# Altium schematic symbol library BundledUserSymbols.SchLib: 915 symbols (part 1 of 17)
Pins are listed as number, name and electrical type; pins without a type are passive.

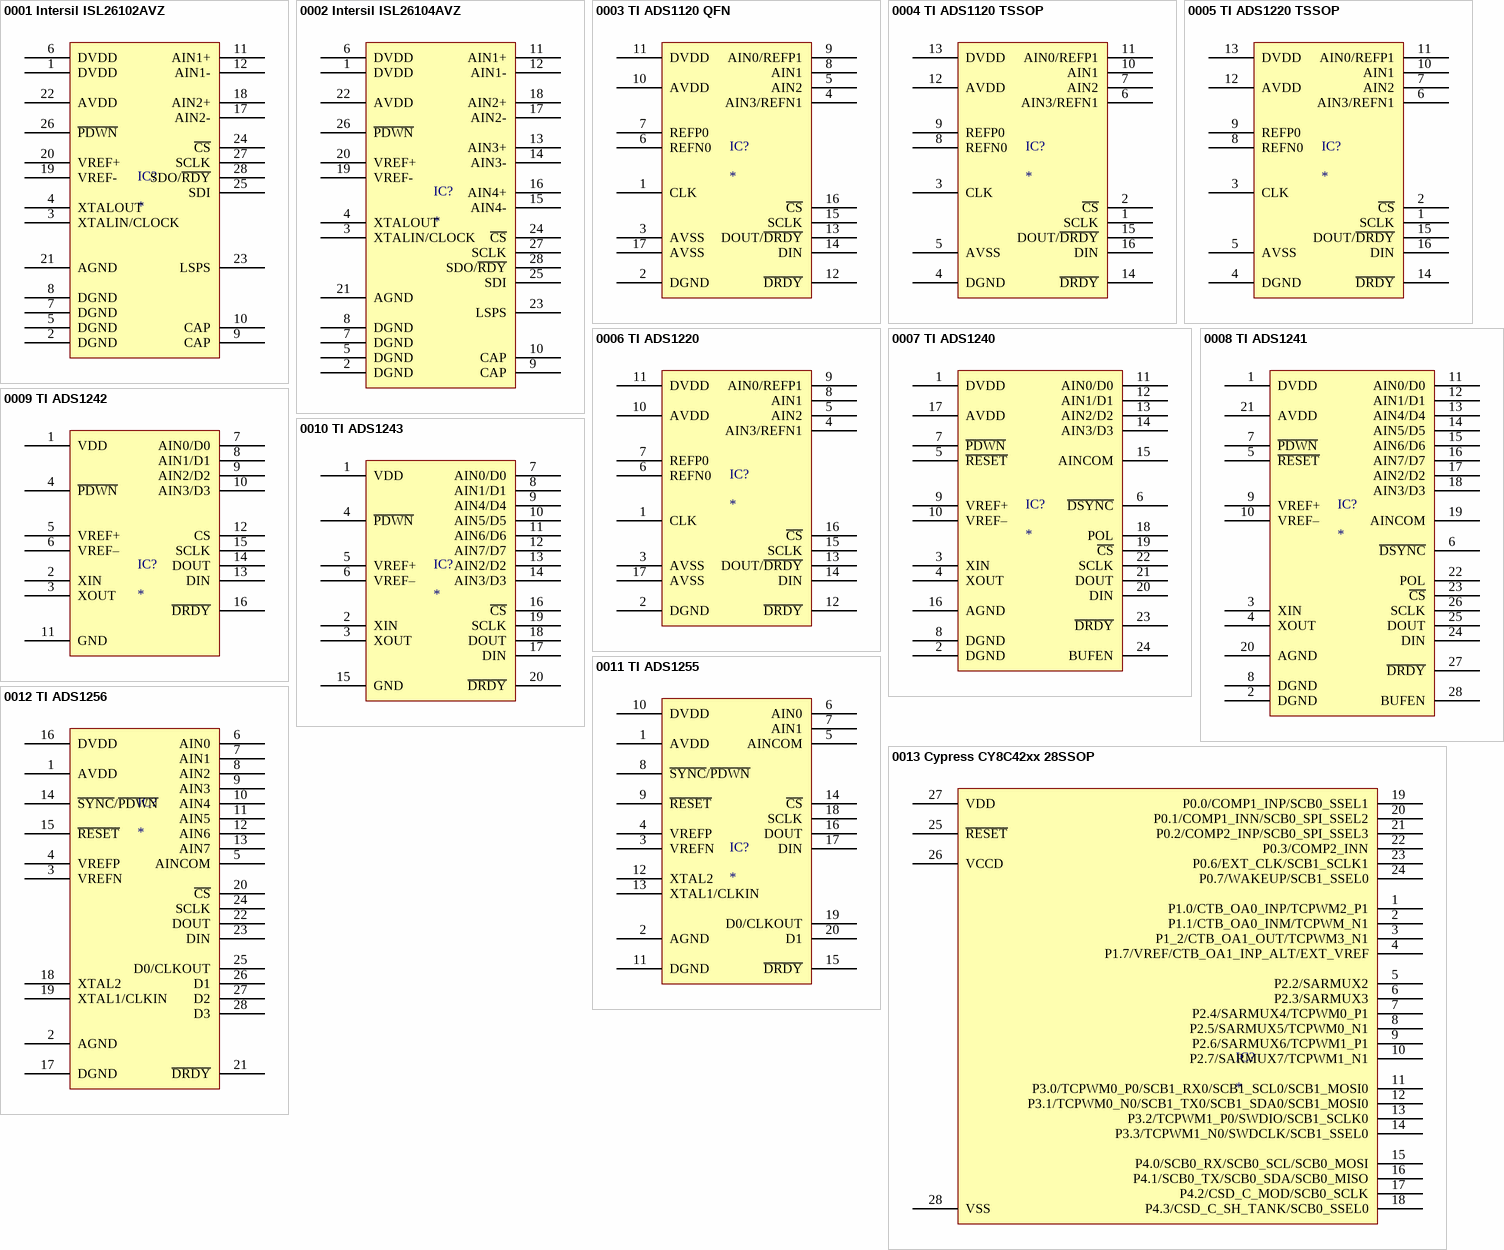
[diagram p0: symbols 0001 Intersil ISL26102AVZ to 0013 Cypress CY8C42xx 28SSOP]

## 0001 Intersil ISL26102AVZ
designator IC?
pins: 1 DVDD, 2 DGND, 3 XTALIN/CLOCK, 4 XTALOUT, 5 DGND, 6 DVDD, 7 DGND, 8 DGND, 9 CAP, 10 CAP, 11 AIN1+, 12 AIN1-, 17 AIN2-, 18 AIN2+, 19 VREF-, 20 VREF+, 21 AGND, 22 AVDD, 23 LSPS, 24 ~{CS}, 25 SDI, 26 ~{PDWN}, 27 SCLK, 28 SDO/~{RDY}

## 0002 Intersil ISL26104AVZ
designator IC?
pins: 1 DVDD, 2 DGND, 3 XTALIN/CLOCK, 4 XTALOUT, 5 DGND, 6 DVDD, 7 DGND, 8 DGND, 9 CAP, 10 CAP, 11 AIN1+, 12 AIN1-, 13 AIN3+, 14 AIN3-, 15 AIN4-, 16 AIN4+, 17 AIN2-, 18 AIN2+, 19 VREF-, 20 VREF+, 21 AGND, 22 AVDD, 23 LSPS, 24 ~{CS}, 25 SDI, 26 ~{PDWN}, 27 SCLK, 28 SDO/~{RDY}

## 0003 TI ADS1120 QFN
designator IC?
pins: 1 CLK, 2 DGND, 3 AVSS, 4 AIN3/REFN1, 5 AIN2, 6 REFN0, 7 REFP0, 8 AIN1, 9 AIN0/REFP1, 10 AVDD, 11 DVDD, 12 ~{DRDY}, 13 DOUT/~{DRDY}, 14 DIN, 15 SCLK, 16 ~{CS}, 17 AVSS

## 0004 TI ADS1120 TSSOP
designator IC?
pins: 1 SCLK, 2 ~{CS}, 3 CLK, 4 DGND, 5 AVSS, 6 AIN3/REFN1, 7 AIN2, 8 REFN0, 9 REFP0, 10 AIN1, 11 AIN0/REFP1, 12 AVDD, 13 DVDD, 14 ~{DRDY}, 15 DOUT/~{DRDY}, 16 DIN

## 0005 TI ADS1220 TSSOP
designator IC?
pins: 1 SCLK, 2 ~{CS}, 3 CLK, 4 DGND, 5 AVSS, 6 AIN3/REFN1, 7 AIN2, 8 REFN0, 9 REFP0, 10 AIN1, 11 AIN0/REFP1, 12 AVDD, 13 DVDD, 14 ~{DRDY}, 15 DOUT/~{DRDY}, 16 DIN

## 0006 TI ADS1220
designator IC?
pins: 1 CLK, 2 DGND, 3 AVSS, 4 AIN3/REFN1, 5 AIN2, 6 REFN0, 7 REFP0, 8 AIN1, 9 AIN0/REFP1, 10 AVDD, 11 DVDD, 12 ~{DRDY}, 13 DOUT/~{DRDY}, 14 DIN, 15 SCLK, 16 ~{CS}, 17 AVSS

## 0007 TI ADS1240
designator IC?
pins: 1 DVDD, 2 DGND, 3 XIN, 4 XOUT, 5 ~{RESET}, 6 ~{DSYNC}, 7 ~{PDWN}, 8 DGND, 9 VREF+, 10 VREF–, 11 AIN0/D0, 12 AIN1/D1, 13 AIN2/D2, 14 AIN3/D3, 15 AINCOM, 16 AGND, 17 AVDD, 18 POL, 19 ~{CS}, 20 DIN, 21 DOUT, 22 SCLK, 23 ~{DRDY}, 24 BUFEN

## 0008 TI ADS1241
designator IC?
pins: 1 DVDD, 2 DGND, 3 XIN, 4 XOUT, 5 ~{RESET}, 6 ~{DSYNC}, 7 ~{PDWN}, 8 DGND, 9 VREF+, 10 VREF–, 11 AIN0/D0, 12 AIN1/D1, 13 AIN4/D4, 14 AIN5/D5, 15 AIN6/D6, 16 AIN7/D7, 17 AIN2/D2, 18 AIN3/D3, 19 AINCOM, 20 AGND, 21 AVDD, 22 POL, 23 ~{CS}, 24 DIN, 25 DOUT, 26 SCLK, 27 ~{DRDY}, 28 BUFEN

## 0009 TI ADS1242
designator IC?
pins: 1 VDD, 2 XIN, 3 XOUT, 4 ~{PDWN}, 5 VREF+, 6 VREF–, 7 AIN0/D0, 8 AIN1/D1, 9 AIN2/D2, 10 AIN3/D3, 11 GND, 12 CS, 13 DIN, 14 DOUT, 15 SCLK, 16 ~{DRDY}

## 0010 TI ADS1243
designator IC?
pins: 1 VDD, 2 XIN, 3 XOUT, 4 ~{PDWN}, 5 VREF+, 6 VREF–, 7 AIN0/D0, 8 AIN1/D1, 9 AIN4/D4, 10 AIN5/D5, 11 AIN6/D6, 12 AIN7/D7, 13 AIN2/D2, 14 AIN3/D3, 15 GND, 16 ~{CS}, 17 DIN, 18 DOUT, 19 SCLK, 20 ~{DRDY}

## 0011 TI ADS1255
designator IC?
pins: 1 AVDD, 2 AGND, 3 VREFN, 4 VREFP, 5 AINCOM, 6 AIN0, 7 AIN1, 8 ~{SYNC}/~{PDWN}, 9 ~{RESET}, 10 DVDD, 11 DGND, 12 XTAL2, 13 XTAL1/CLKIN, 14 ~{CS}, 15 ~{DRDY}, 16 DOUT, 17 DIN, 18 SCLK, 19 D0/CLKOUT, 20 D1

## 0012 TI ADS1256
designator IC?
pins: 1 AVDD, 2 AGND, 3 VREFN, 4 VREFP, 5 AINCOM, 6 AIN0, 7 AIN1, 8 AIN2, 9 AIN3, 10 AIN4, 11 AIN5, 12 AIN6, 13 AIN7, 14 ~{SYNC}/~{PDWN}, 15 ~{RESET}, 16 DVDD, 17 DGND, 18 XTAL2, 19 XTAL1/CLKIN, 20 ~{CS}, 21 ~{DRDY}, 22 DOUT, 23 DIN, 24 SCLK, 25 D0/CLKOUT, 26 D1, 27 D2, 28 D3

## 0013 Cypress CY8C42xx 28SSOP
designator IC?
pins: 1 P1.0/CTB_OA0_INP/TCPWM2_P1, 2 P1.1/CTB_OA0_INM/TCPWM_N1, 3 P1_2/CTB_OA1_OUT/TCPWM3_N1, 4 P1.7/VREF/CTB_OA1_INP_ALT/EXT_VREF, 5 P2.2/SARMUX2, 6 P2.3/SARMUX3, 7 P2.4/SARMUX4/TCPWM0_P1, 8 P2.5/SARMUX5/TCPWM0_N1, 9 P2.6/SARMUX6/TCPWM1_P1, 10 P2.7/SARMUX7/TCPWM1_N1, 11 P3.0/TCPWM0_P0/SCB1_RX0/SCB1_SCL0/SCB1_MOSI0, 12 P3.1/TCPWM0_N0/SCB1_TX0/SCB1_SDA0/SCB1_MOSI0, 13 P3.2/TCPWM1_P0/SWDIO/SCB1_SCLK0, 14 P3.3/TCPWM1_N0/SWDCLK/SCB1_SSEL0, 15 P4.0/SCB0_RX/SCB0_SCL/SCB0_MOSI, 16 P4.1/SCB0_TX/SCB0_SDA/SCB0_MISO, 17 P4.2/CSD_C_MOD/SCB0_SCLK, 18 P4.3/CSD_C_SH_TANK/SCB0_SSEL0, 19 P0.0/COMP1_INP/SCB0_SSEL1, 20 P0.1/COMP1_INN/SCB0_SPI_SSEL2, 21 P0.2/COMP2_INP/SCB0_SPI_SSEL3, 22 P0.3/COMP2_INN, 23 P0.6/EXT_CLK/SCB1_SCLK1, 24 P0.7/WAKEUP/SCB1_SSEL0, 25 ~{RESET}, 26 VCCD, 27 VDD, 28 VSS

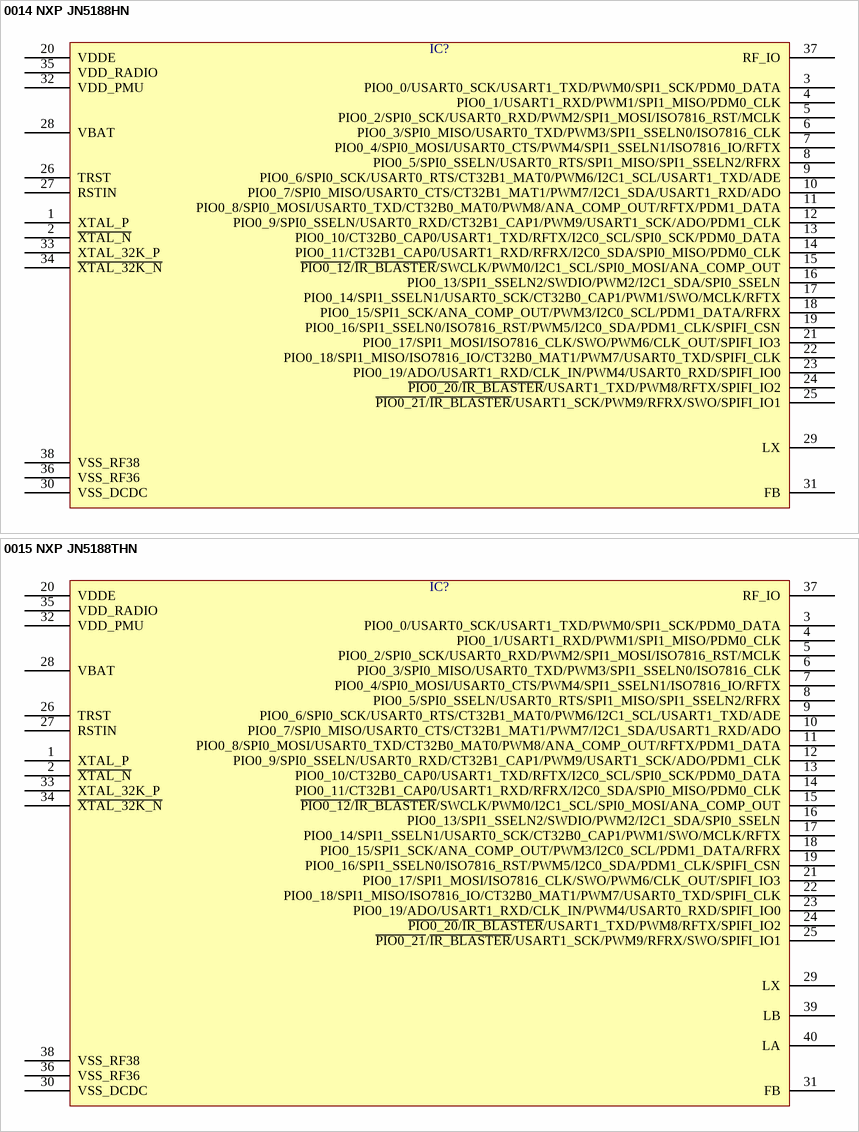
[diagram p1: symbols 0014 NXP JN5188HN to 0015 NXP JN5188THN]

## 0014 NXP JN5188HN
designator IC?  (value not drawn)
pins: 1 XTAL_P, 2 ~{XTAL_N}, 3 PIO0_0/USART0_SCK/USART1_TXD/PWM0/SPI1_SCK/PDM0_DATA, 4 PIO0_1/USART1_RXD/PWM1/SPI1_MISO/PDM0_CLK, 5 PIO0_2/SPI0_SCK/USART0_RXD/PWM2/SPI1_MOSI/ISO7816_RST/MCLK, 6 PIO0_3/SPI0_MISO/USART0_TXD/PWM3/SPI1_SSELN0/ISO7816_CLK, 7 PIO0_4/SPI0_MOSI/USART0_CTS/PWM4/SPI1_SSELN1/ISO7816_IO/RFTX, 8 PIO0_5/SPI0_SSELN/USART0_RTS/SPI1_MISO/SPI1_SSELN2/RFRX, 9 PIO0_6/SPI0_SCK/USART0_RTS/CT32B1_MAT0/PWM6/I2C1_SCL/USART1_TXD/ADE, 10 PIO0_7/SPI0_MISO/USART0_CTS/CT32B1_MAT1/PWM7/I2C1_SDA/USART1_RXD/ADO, 11 PIO0_8/SPI0_MOSI/USART0_TXD/CT32B0_MAT0/PWM8/ANA_COMP_OUT/RFTX/PDM1_DATA, 12 PIO0_9/SPI0_SSELN/USART0_RXD/CT32B1_CAP1/PWM9/USART1_SCK/ADO/PDM1_CLK, 13 PIO0_10/CT32B0_CAP0/USART1_TXD/RFTX/I2C0_SCL/SPI0_SCK/PDM0_DATA, 14 PIO0_11/CT32B1_CAP0/USART1_RXD/RFRX/I2C0_SDA/SPI0_MISO/PDM0_CLK, 15 ~{PIO0_12}/~{IR_BLASTER}/SWCLK/PWM0/I2C1_SCL/SPI0_MOSI/ANA_COMP_OUT, 16 PIO0_13/SPI1_SSELN2/SWDIO/PWM2/I2C1_SDA/SPI0_SSELN, 17 PIO0_14/SPI1_SSELN1/USART0_SCK/CT32B0_CAP1/PWM1/SWO/MCLK/RFTX, 18 PIO0_15/SPI1_SCK/ANA_COMP_OUT/PWM3/I2C0_SCL/PDM1_DATA/RFRX, 19 PIO0_16/SPI1_SSELN0/ISO7816_RST/PWM5/I2C0_SDA/PDM1_CLK/SPIFI_CSN, 20 VDDE, 21 PIO0_17/SPI1_MOSI/ISO7816_CLK/SWO/PWM6/CLK_OUT/SPIFI_IO3, 22 PIO0_18/SPI1_MISO/ISO7816_IO/CT32B0_MAT1/PWM7/USART0_TXD/SPIFI_CLK, 23 PIO0_19/ADO/USART1_RXD/CLK_IN/PWM4/USART0_RXD/SPIFI_IO0, 24 ~{PIO0_20}/~{IR_BLASTER}/USART1_TXD/PWM8/RFTX/SPIFI_IO2, 25 ~{PIO0_21}/~{IR_BLASTER}/USART1_SCK/PWM9/RFRX/SWO/SPIFI_IO1, 26 TRST, 27 RSTIN, 28 VBAT, 29 LX, 30 VSS_DCDC, 31 FB, 32 VDD_PMU, 33 XTAL_32K_P, 34 ~{XTAL_32K_N}, 35 VDD_RADIO, 36 VSS_RF36, 37 RF_IO, 38 VSS_RF38

## 0015 NXP JN5188THN
designator IC?  (value not drawn)
pins: 1 XTAL_P, 2 ~{XTAL_N}, 3 PIO0_0/USART0_SCK/USART1_TXD/PWM0/SPI1_SCK/PDM0_DATA, 4 PIO0_1/USART1_RXD/PWM1/SPI1_MISO/PDM0_CLK, 5 PIO0_2/SPI0_SCK/USART0_RXD/PWM2/SPI1_MOSI/ISO7816_RST/MCLK, 6 PIO0_3/SPI0_MISO/USART0_TXD/PWM3/SPI1_SSELN0/ISO7816_CLK, 7 PIO0_4/SPI0_MOSI/USART0_CTS/PWM4/SPI1_SSELN1/ISO7816_IO/RFTX, 8 PIO0_5/SPI0_SSELN/USART0_RTS/SPI1_MISO/SPI1_SSELN2/RFRX, 9 PIO0_6/SPI0_SCK/USART0_RTS/CT32B1_MAT0/PWM6/I2C1_SCL/USART1_TXD/ADE, 10 PIO0_7/SPI0_MISO/USART0_CTS/CT32B1_MAT1/PWM7/I2C1_SDA/USART1_RXD/ADO, 11 PIO0_8/SPI0_MOSI/USART0_TXD/CT32B0_MAT0/PWM8/ANA_COMP_OUT/RFTX/PDM1_DATA, 12 PIO0_9/SPI0_SSELN/USART0_RXD/CT32B1_CAP1/PWM9/USART1_SCK/ADO/PDM1_CLK, 13 PIO0_10/CT32B0_CAP0/USART1_TXD/RFTX/I2C0_SCL/SPI0_SCK/PDM0_DATA, 14 PIO0_11/CT32B1_CAP0/USART1_RXD/RFRX/I2C0_SDA/SPI0_MISO/PDM0_CLK, 15 ~{PIO0_12}/~{IR_BLASTER}/SWCLK/PWM0/I2C1_SCL/SPI0_MOSI/ANA_COMP_OUT, 16 PIO0_13/SPI1_SSELN2/SWDIO/PWM2/I2C1_SDA/SPI0_SSELN, 17 PIO0_14/SPI1_SSELN1/USART0_SCK/CT32B0_CAP1/PWM1/SWO/MCLK/RFTX, 18 PIO0_15/SPI1_SCK/ANA_COMP_OUT/PWM3/I2C0_SCL/PDM1_DATA/RFRX, 19 PIO0_16/SPI1_SSELN0/ISO7816_RST/PWM5/I2C0_SDA/PDM1_CLK/SPIFI_CSN, 20 VDDE, 21 PIO0_17/SPI1_MOSI/ISO7816_CLK/SWO/PWM6/CLK_OUT/SPIFI_IO3, 22 PIO0_18/SPI1_MISO/ISO7816_IO/CT32B0_MAT1/PWM7/USART0_TXD/SPIFI_CLK, 23 PIO0_19/ADO/USART1_RXD/CLK_IN/PWM4/USART0_RXD/SPIFI_IO0, 24 ~{PIO0_20}/~{IR_BLASTER}/USART1_TXD/PWM8/RFTX/SPIFI_IO2, 25 ~{PIO0_21}/~{IR_BLASTER}/USART1_SCK/PWM9/RFRX/SWO/SPIFI_IO1, 26 TRST, 27 RSTIN, 28 VBAT, 29 LX, 30 VSS_DCDC, 31 FB, 32 VDD_PMU, 33 XTAL_32K_P, 34 ~{XTAL_32K_N}, 35 VDD_RADIO, 36 VSS_RF36, 37 RF_IO, 38 VSS_RF38, 39 LB, 40 LA

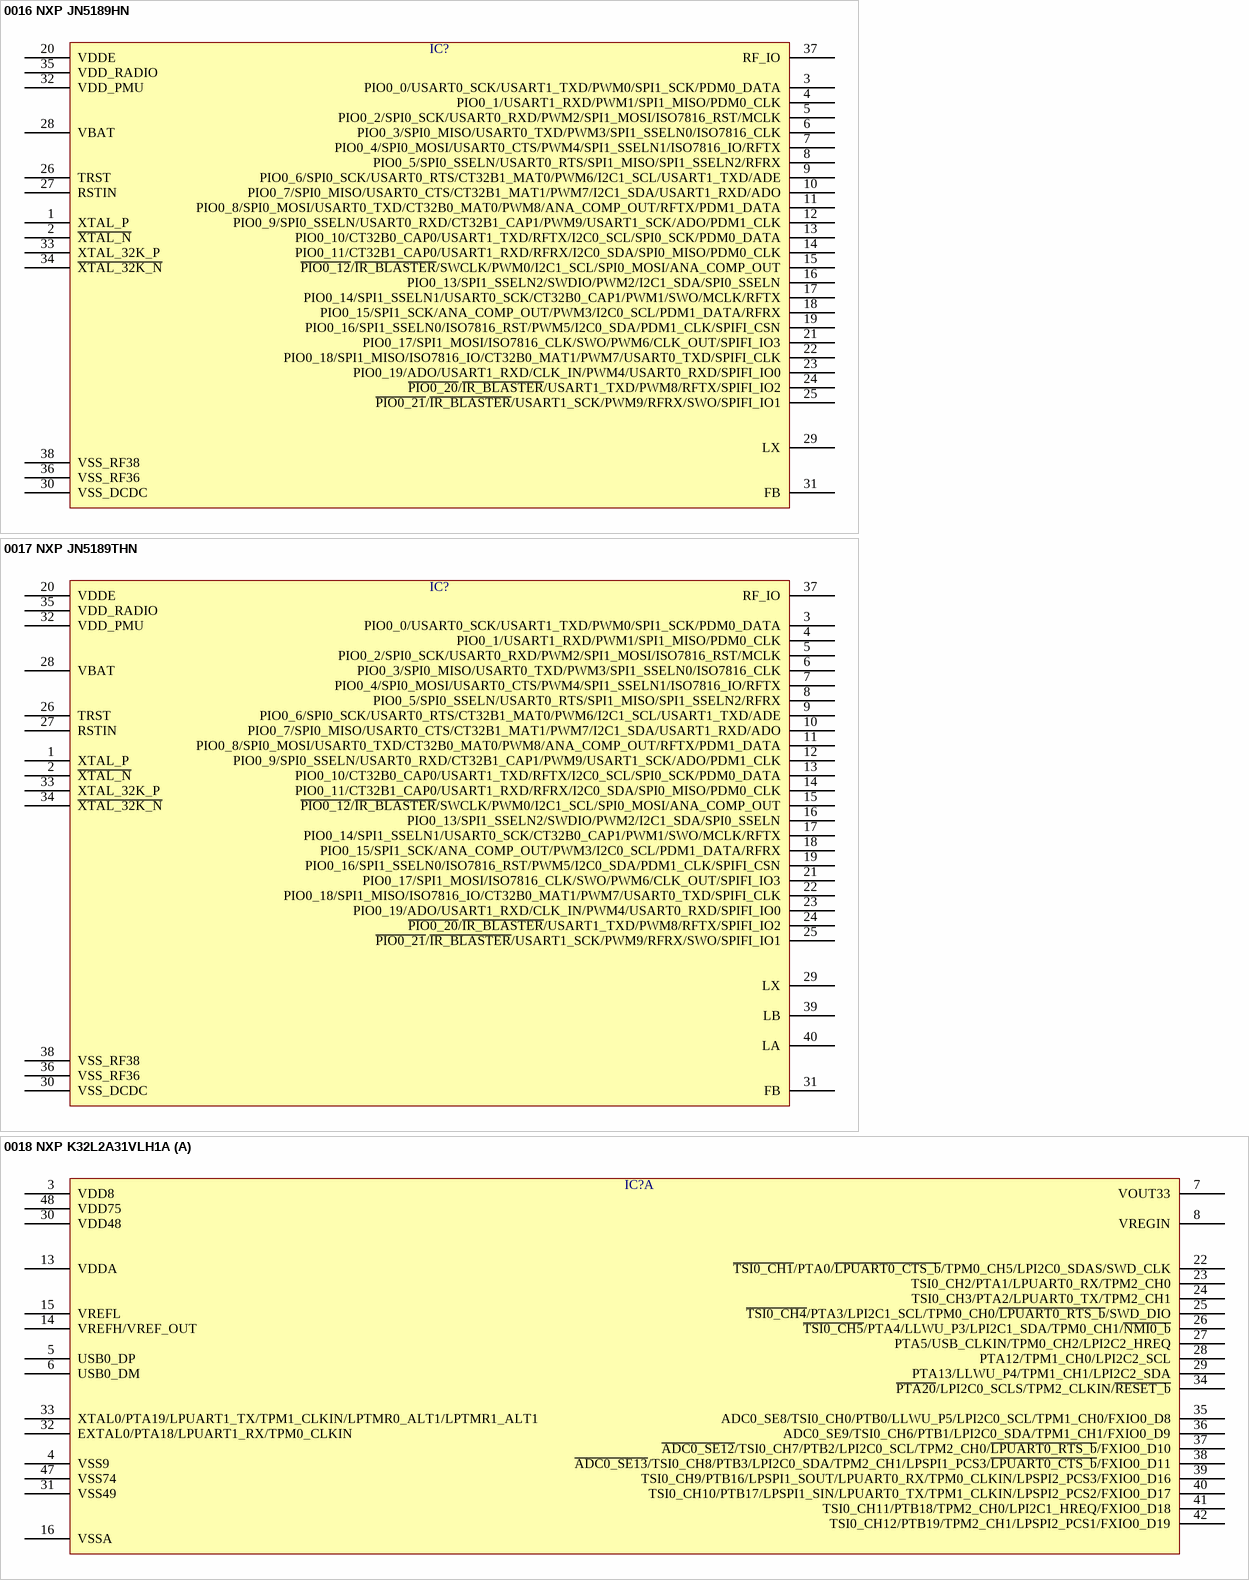
[diagram p2: symbols 0016 NXP JN5189HN to 0018 NXP K32L2A31VLH1A]

## 0016 NXP JN5189HN
designator IC?  (value not drawn)
pins: 1 XTAL_P, 2 ~{XTAL_N}, 3 PIO0_0/USART0_SCK/USART1_TXD/PWM0/SPI1_SCK/PDM0_DATA, 4 PIO0_1/USART1_RXD/PWM1/SPI1_MISO/PDM0_CLK, 5 PIO0_2/SPI0_SCK/USART0_RXD/PWM2/SPI1_MOSI/ISO7816_RST/MCLK, 6 PIO0_3/SPI0_MISO/USART0_TXD/PWM3/SPI1_SSELN0/ISO7816_CLK, 7 PIO0_4/SPI0_MOSI/USART0_CTS/PWM4/SPI1_SSELN1/ISO7816_IO/RFTX, 8 PIO0_5/SPI0_SSELN/USART0_RTS/SPI1_MISO/SPI1_SSELN2/RFRX, 9 PIO0_6/SPI0_SCK/USART0_RTS/CT32B1_MAT0/PWM6/I2C1_SCL/USART1_TXD/ADE, 10 PIO0_7/SPI0_MISO/USART0_CTS/CT32B1_MAT1/PWM7/I2C1_SDA/USART1_RXD/ADO, 11 PIO0_8/SPI0_MOSI/USART0_TXD/CT32B0_MAT0/PWM8/ANA_COMP_OUT/RFTX/PDM1_DATA, 12 PIO0_9/SPI0_SSELN/USART0_RXD/CT32B1_CAP1/PWM9/USART1_SCK/ADO/PDM1_CLK, 13 PIO0_10/CT32B0_CAP0/USART1_TXD/RFTX/I2C0_SCL/SPI0_SCK/PDM0_DATA, 14 PIO0_11/CT32B1_CAP0/USART1_RXD/RFRX/I2C0_SDA/SPI0_MISO/PDM0_CLK, 15 ~{PIO0_12}/~{IR_BLASTER}/SWCLK/PWM0/I2C1_SCL/SPI0_MOSI/ANA_COMP_OUT, 16 PIO0_13/SPI1_SSELN2/SWDIO/PWM2/I2C1_SDA/SPI0_SSELN, 17 PIO0_14/SPI1_SSELN1/USART0_SCK/CT32B0_CAP1/PWM1/SWO/MCLK/RFTX, 18 PIO0_15/SPI1_SCK/ANA_COMP_OUT/PWM3/I2C0_SCL/PDM1_DATA/RFRX, 19 PIO0_16/SPI1_SSELN0/ISO7816_RST/PWM5/I2C0_SDA/PDM1_CLK/SPIFI_CSN, 20 VDDE, 21 PIO0_17/SPI1_MOSI/ISO7816_CLK/SWO/PWM6/CLK_OUT/SPIFI_IO3, 22 PIO0_18/SPI1_MISO/ISO7816_IO/CT32B0_MAT1/PWM7/USART0_TXD/SPIFI_CLK, 23 PIO0_19/ADO/USART1_RXD/CLK_IN/PWM4/USART0_RXD/SPIFI_IO0, 24 ~{PIO0_20}/~{IR_BLASTER}/USART1_TXD/PWM8/RFTX/SPIFI_IO2, 25 ~{PIO0_21}/~{IR_BLASTER}/USART1_SCK/PWM9/RFRX/SWO/SPIFI_IO1, 26 TRST, 27 RSTIN, 28 VBAT, 29 LX, 30 VSS_DCDC, 31 FB, 32 VDD_PMU, 33 XTAL_32K_P, 34 ~{XTAL_32K_N}, 35 VDD_RADIO, 36 VSS_RF36, 37 RF_IO, 38 VSS_RF38

## 0017 NXP JN5189THN
designator IC?  (value not drawn)
pins: 1 XTAL_P, 2 ~{XTAL_N}, 3 PIO0_0/USART0_SCK/USART1_TXD/PWM0/SPI1_SCK/PDM0_DATA, 4 PIO0_1/USART1_RXD/PWM1/SPI1_MISO/PDM0_CLK, 5 PIO0_2/SPI0_SCK/USART0_RXD/PWM2/SPI1_MOSI/ISO7816_RST/MCLK, 6 PIO0_3/SPI0_MISO/USART0_TXD/PWM3/SPI1_SSELN0/ISO7816_CLK, 7 PIO0_4/SPI0_MOSI/USART0_CTS/PWM4/SPI1_SSELN1/ISO7816_IO/RFTX, 8 PIO0_5/SPI0_SSELN/USART0_RTS/SPI1_MISO/SPI1_SSELN2/RFRX, 9 PIO0_6/SPI0_SCK/USART0_RTS/CT32B1_MAT0/PWM6/I2C1_SCL/USART1_TXD/ADE, 10 PIO0_7/SPI0_MISO/USART0_CTS/CT32B1_MAT1/PWM7/I2C1_SDA/USART1_RXD/ADO, 11 PIO0_8/SPI0_MOSI/USART0_TXD/CT32B0_MAT0/PWM8/ANA_COMP_OUT/RFTX/PDM1_DATA, 12 PIO0_9/SPI0_SSELN/USART0_RXD/CT32B1_CAP1/PWM9/USART1_SCK/ADO/PDM1_CLK, 13 PIO0_10/CT32B0_CAP0/USART1_TXD/RFTX/I2C0_SCL/SPI0_SCK/PDM0_DATA, 14 PIO0_11/CT32B1_CAP0/USART1_RXD/RFRX/I2C0_SDA/SPI0_MISO/PDM0_CLK, 15 ~{PIO0_12}/~{IR_BLASTER}/SWCLK/PWM0/I2C1_SCL/SPI0_MOSI/ANA_COMP_OUT, 16 PIO0_13/SPI1_SSELN2/SWDIO/PWM2/I2C1_SDA/SPI0_SSELN, 17 PIO0_14/SPI1_SSELN1/USART0_SCK/CT32B0_CAP1/PWM1/SWO/MCLK/RFTX, 18 PIO0_15/SPI1_SCK/ANA_COMP_OUT/PWM3/I2C0_SCL/PDM1_DATA/RFRX, 19 PIO0_16/SPI1_SSELN0/ISO7816_RST/PWM5/I2C0_SDA/PDM1_CLK/SPIFI_CSN, 20 VDDE, 21 PIO0_17/SPI1_MOSI/ISO7816_CLK/SWO/PWM6/CLK_OUT/SPIFI_IO3, 22 PIO0_18/SPI1_MISO/ISO7816_IO/CT32B0_MAT1/PWM7/USART0_TXD/SPIFI_CLK, 23 PIO0_19/ADO/USART1_RXD/CLK_IN/PWM4/USART0_RXD/SPIFI_IO0, 24 ~{PIO0_20}/~{IR_BLASTER}/USART1_TXD/PWM8/RFTX/SPIFI_IO2, 25 ~{PIO0_21}/~{IR_BLASTER}/USART1_SCK/PWM9/RFRX/SWO/SPIFI_IO1, 26 TRST, 27 RSTIN, 28 VBAT, 29 LX, 30 VSS_DCDC, 31 FB, 32 VDD_PMU, 33 XTAL_32K_P, 34 ~{XTAL_32K_N}, 35 VDD_RADIO, 36 VSS_RF36, 37 RF_IO, 38 VSS_RF38, 39 LB, 40 LA

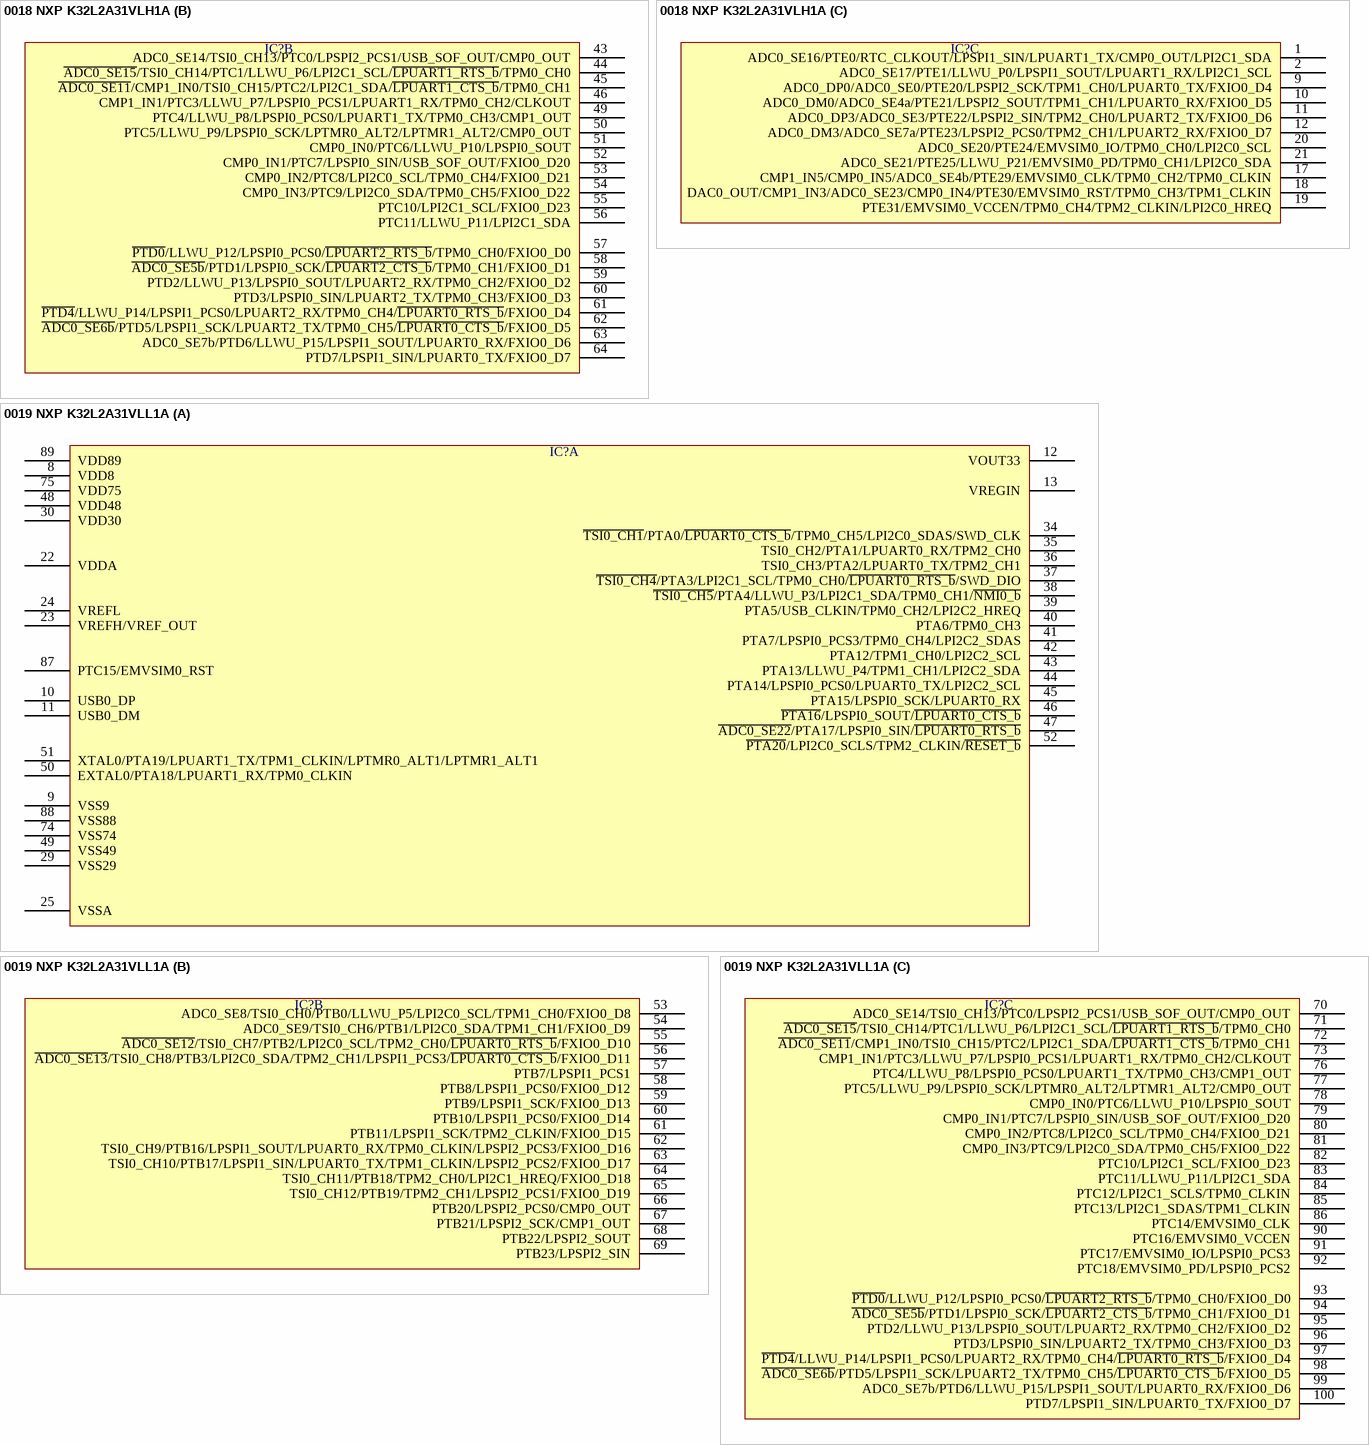
[diagram p3: symbols 0018 NXP K32L2A31VLH1A to 0019 NXP K32L2A31VLL1A]

## 0018 NXP K32L2A31VLH1A
designator IC?  (value not drawn)
part A pins: 3 VDD8, 4 VSS9, 5 USB0_DP, 6 USB0_DM, 7 VOUT33, 8 VREGIN, 13 VDDA, 14 VREFH/VREF_OUT, 15 VREFL, 16 VSSA, 22 ~{TSI0_CH1}/PTA0/~{LPUART0_CTS_b}/TPM0_CH5/LPI2C0_SDAS/SWD_CLK, 23 TSI0_CH2/PTA1/LPUART0_RX/TPM2_CH0, 24 TSI0_CH3/PTA2/LPUART0_TX/TPM2_CH1, 25 ~{TSI0_CH4}/PTA3/LPI2C1_SCL/TPM0_CH0/~{LPUART0_RTS_b}/SWD_DIO, 26 ~{TSI0_CH5}/PTA4/LLWU_P3/LPI2C1_SDA/TPM0_CH1/~{NMI0_b}, 27 PTA5/USB_CLKIN/TPM0_CH2/LPI2C2_HREQ, 28 PTA12/TPM1_CH0/LPI2C2_SCL, 29 PTA13/LLWU_P4/TPM1_CH1/LPI2C2_SDA, 30 VDD48, 31 VSS49, 32 EXTAL0/PTA18/LPUART1_RX/TPM0_CLKIN, 33 XTAL0/PTA19/LPUART1_TX/TPM1_CLKIN/LPTMR0_ALT1/LPTMR1_ALT1, 34 ~{PTA20}/LPI2C0_SCLS/TPM2_CLKIN/~{RESET_b}, 35 ADC0_SE8/TSI0_CH0/PTB0/LLWU_P5/LPI2C0_SCL/TPM1_CH0/FXIO0_D8, 36 ADC0_SE9/TSI0_CH6/PTB1/LPI2C0_SDA/TPM1_CH1/FXIO0_D9, 37 ~{ADC0_SE12}/TSI0_CH7/PTB2/LPI2C0_SCL/TPM2_CH0/~{LPUART0_RTS_b}/FXIO0_D10, 38 ~{ADC0_SE13}/TSI0_CH8/PTB3/LPI2C0_SDA/TPM2_CH1/LPSPI1_PCS3/~{LPUART0_CTS_b}/FXIO0_D11, 39 TSI0_CH9/PTB16/LPSPI1_SOUT/LPUART0_RX/TPM0_CLKIN/LPSPI2_PCS3/FXIO0_D16, 40 TSI0_CH10/PTB17/LPSPI1_SIN/LPUART0_TX/TPM1_CLKIN/LPSPI2_PCS2/FXIO0_D17, 41 TSI0_CH11/PTB18/TPM2_CH0/LPI2C1_HREQ/FXIO0_D18, 42 TSI0_CH12/PTB19/TPM2_CH1/LPSPI2_PCS1/FXIO0_D19, 47 VSS74, 48 VDD75
part B pins: 43 ADC0_SE14/TSI0_CH13/PTC0/LPSPI2_PCS1/USB_SOF_OUT/CMP0_OUT, 44 ~{ADC0_SE15}/TSI0_CH14/PTC1/LLWU_P6/LPI2C1_SCL/~{LPUART1_RTS_b}/TPM0_CH0, 45 ~{ADC0_SE11}/CMP1_IN0/TSI0_CH15/PTC2/LPI2C1_SDA/~{LPUART1_CTS_b}/TPM0_CH1, 46 CMP1_IN1/PTC3/LLWU_P7/LPSPI0_PCS1/LPUART1_RX/TPM0_CH2/CLKOUT, 49 PTC4/LLWU_P8/LPSPI0_PCS0/LPUART1_TX/TPM0_CH3/CMP1_OUT, 50 PTC5/LLWU_P9/LPSPI0_SCK/LPTMR0_ALT2/LPTMR1_ALT2/CMP0_OUT, 51 CMP0_IN0/PTC6/LLWU_P10/LPSPI0_SOUT, 52 CMP0_IN1/PTC7/LPSPI0_SIN/USB_SOF_OUT/FXIO0_D20, 53 CMP0_IN2/PTC8/LPI2C0_SCL/TPM0_CH4/FXIO0_D21, 54 CMP0_IN3/PTC9/LPI2C0_SDA/TPM0_CH5/FXIO0_D22, 55 PTC10/LPI2C1_SCL/FXIO0_D23, 56 PTC11/LLWU_P11/LPI2C1_SDA, 57 ~{PTD0}/LLWU_P12/LPSPI0_PCS0/~{LPUART2_RTS_b}/TPM0_CH0/FXIO0_D0, 58 ~{ADC0_SE5b}/PTD1/LPSPI0_SCK/~{LPUART2_CTS_b}/TPM0_CH1/FXIO0_D1, 59 PTD2/LLWU_P13/LPSPI0_SOUT/LPUART2_RX/TPM0_CH2/FXIO0_D2, 60 PTD3/LPSPI0_SIN/LPUART2_TX/TPM0_CH3/FXIO0_D3, 61 ~{PTD4}/LLWU_P14/LPSPI1_PCS0/LPUART2_RX/TPM0_CH4/~{LPUART0_RTS_b}/FXIO0_D4, 62 ~{ADC0_SE6b}/PTD5/LPSPI1_SCK/LPUART2_TX/TPM0_CH5/~{LPUART0_CTS_b}/FXIO0_D5, 63 ADC0_SE7b/PTD6/LLWU_P15/LPSPI1_SOUT/LPUART0_RX/FXIO0_D6, 64 PTD7/LPSPI1_SIN/LPUART0_TX/FXIO0_D7
part C pins: 1 ADC0_SE16/PTE0/RTC_CLKOUT/LPSPI1_SIN/LPUART1_TX/CMP0_OUT/LPI2C1_SDA, 2 ADC0_SE17/PTE1/LLWU_P0/LPSPI1_SOUT/LPUART1_RX/LPI2C1_SCL, 9 ADC0_DP0/ADC0_SE0/PTE20/LPSPI2_SCK/TPM1_CH0/LPUART0_TX/FXIO0_D4, 10 ADC0_DM0/ADC0_SE4a/PTE21/LPSPI2_SOUT/TPM1_CH1/LPUART0_RX/FXIO0_D5, 11 ADC0_DP3/ADC0_SE3/PTE22/LPSPI2_SIN/TPM2_CH0/LPUART2_TX/FXIO0_D6, 12 ADC0_DM3/ADC0_SE7a/PTE23/LPSPI2_PCS0/TPM2_CH1/LPUART2_RX/FXIO0_D7, 17 CMP1_IN5/CMP0_IN5/ADC0_SE4b/PTE29/EMVSIM0_CLK/TPM0_CH2/TPM0_CLKIN, 18 DAC0_OUT/CMP1_IN3/ADC0_SE23/CMP0_IN4/PTE30/EMVSIM0_RST/TPM0_CH3/TPM1_CLKIN, 19 PTE31/EMVSIM0_VCCEN/TPM0_CH4/TPM2_CLKIN/LPI2C0_HREQ, 20 ADC0_SE20/PTE24/EMVSIM0_IO/TPM0_CH0/LPI2C0_SCL, 21 ADC0_SE21/PTE25/LLWU_P21/EMVSIM0_PD/TPM0_CH1/LPI2C0_SDA

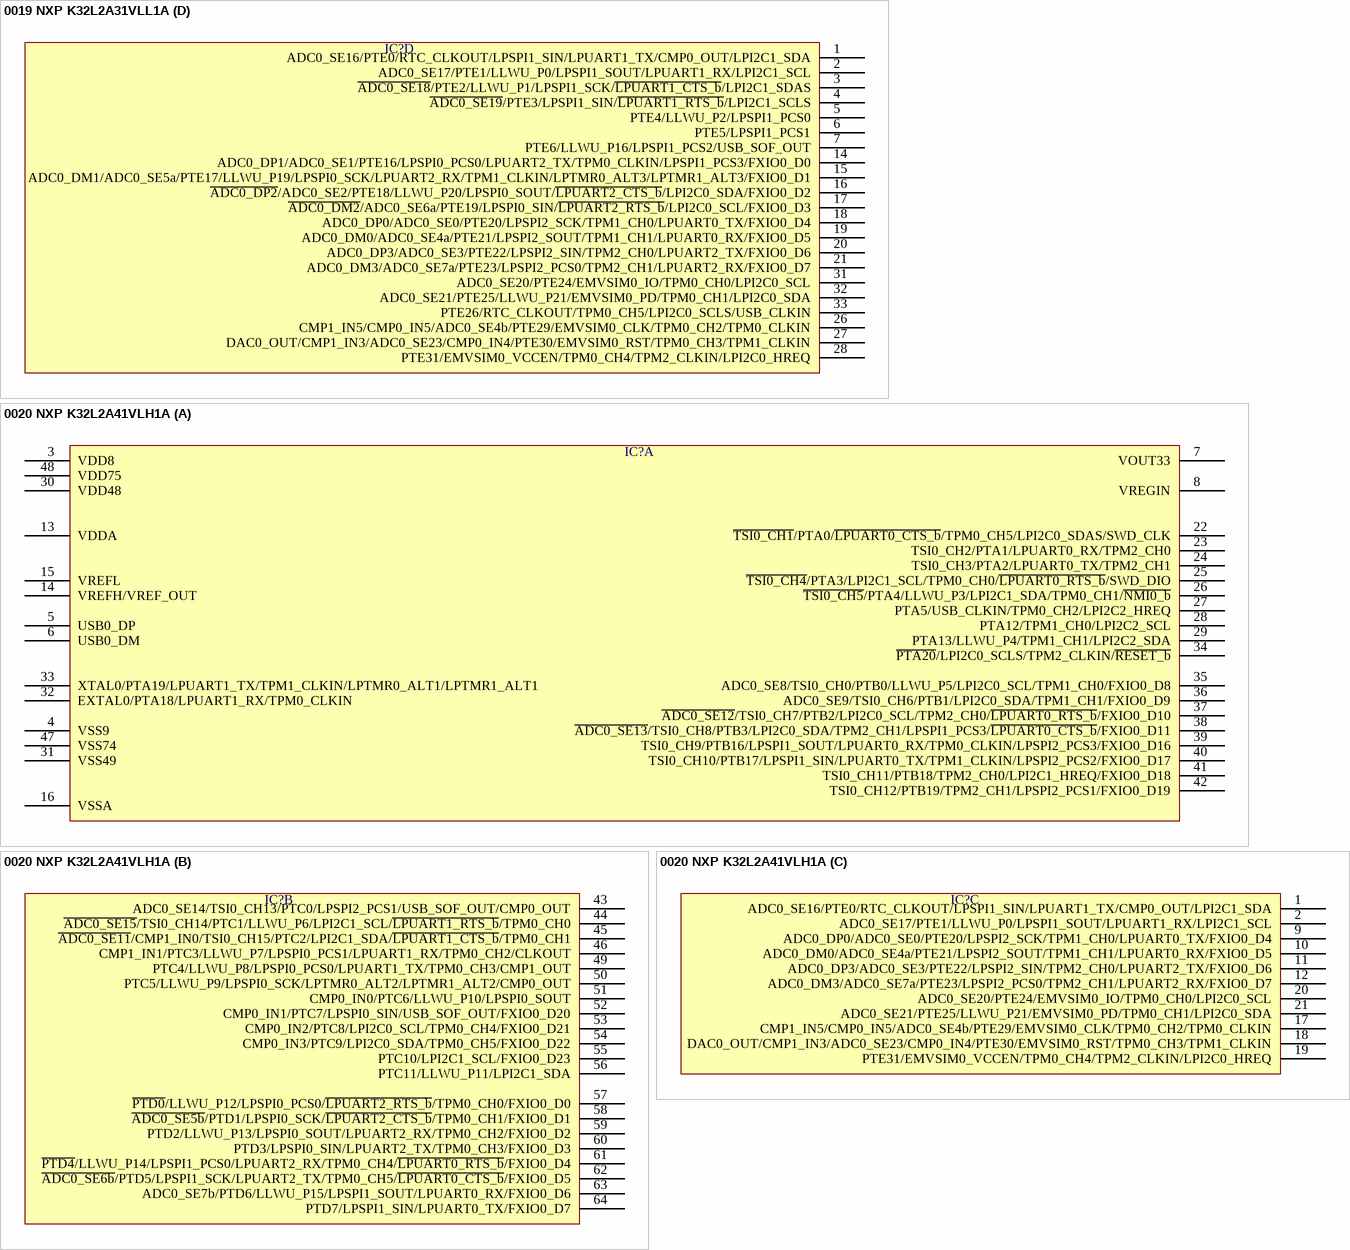
[diagram p4: symbols 0019 NXP K32L2A31VLL1A to 0020 NXP K32L2A41VLH1A]

## 0019 NXP K32L2A31VLL1A
designator IC?  (value not drawn)
part A pins: 8 VDD8, 9 VSS9, 10 USB0_DP, 11 USB0_DM, 12 VOUT33, 13 VREGIN, 22 VDDA, 23 VREFH/VREF_OUT, 24 VREFL, 25 VSSA, 29 VSS29, 30 VDD30, 34 ~{TSI0_CH1}/PTA0/~{LPUART0_CTS_b}/TPM0_CH5/LPI2C0_SDAS/SWD_CLK, 35 TSI0_CH2/PTA1/LPUART0_RX/TPM2_CH0, 36 TSI0_CH3/PTA2/LPUART0_TX/TPM2_CH1, 37 ~{TSI0_CH4}/PTA3/LPI2C1_SCL/TPM0_CH0/~{LPUART0_RTS_b}/SWD_DIO, 38 ~{TSI0_CH5}/PTA4/LLWU_P3/LPI2C1_SDA/TPM0_CH1/~{NMI0_b}, 39 PTA5/USB_CLKIN/TPM0_CH2/LPI2C2_HREQ, 40 PTA6/TPM0_CH3, 41 PTA7/LPSPI0_PCS3/TPM0_CH4/LPI2C2_SDAS, 42 PTA12/TPM1_CH0/LPI2C2_SCL, 43 PTA13/LLWU_P4/TPM1_CH1/LPI2C2_SDA, 44 PTA14/LPSPI0_PCS0/LPUART0_TX/LPI2C2_SCL, 45 PTA15/LPSPI0_SCK/LPUART0_RX, 46 ~{PTA16}/LPSPI0_SOUT/~{LPUART0_CTS_b}, 47 ~{ADC0_SE22}/PTA17/LPSPI0_SIN/~{LPUART0_RTS_b}, 48 VDD48, 49 VSS49, 50 EXTAL0/PTA18/LPUART1_RX/TPM0_CLKIN, 51 XTAL0/PTA19/LPUART1_TX/TPM1_CLKIN/LPTMR0_ALT1/LPTMR1_ALT1, 52 ~{PTA20}/LPI2C0_SCLS/TPM2_CLKIN/~{RESET_b}, 74 VSS74, 75 VDD75, 87 PTC15/EMVSIM0_RST, 88 VSS88, 89 VDD89
part B pins: 53 ADC0_SE8/TSI0_CH0/PTB0/LLWU_P5/LPI2C0_SCL/TPM1_CH0/FXIO0_D8, 54 ADC0_SE9/TSI0_CH6/PTB1/LPI2C0_SDA/TPM1_CH1/FXIO0_D9, 55 ~{ADC0_SE12}/TSI0_CH7/PTB2/LPI2C0_SCL/TPM2_CH0/~{LPUART0_RTS_b}/FXIO0_D10, 56 ~{ADC0_SE13}/TSI0_CH8/PTB3/LPI2C0_SDA/TPM2_CH1/LPSPI1_PCS3/~{LPUART0_CTS_b}/FXIO0_D11, 57 PTB7/LPSPI1_PCS1, 58 PTB8/LPSPI1_PCS0/FXIO0_D12, 59 PTB9/LPSPI1_SCK/FXIO0_D13, 60 PTB10/LPSPI1_PCS0/FXIO0_D14, 61 PTB11/LPSPI1_SCK/TPM2_CLKIN/FXIO0_D15, 62 TSI0_CH9/PTB16/LPSPI1_SOUT/LPUART0_RX/TPM0_CLKIN/LPSPI2_PCS3/FXIO0_D16, 63 TSI0_CH10/PTB17/LPSPI1_SIN/LPUART0_TX/TPM1_CLKIN/LPSPI2_PCS2/FXIO0_D17, 64 TSI0_CH11/PTB18/TPM2_CH0/LPI2C1_HREQ/FXIO0_D18, 65 TSI0_CH12/PTB19/TPM2_CH1/LPSPI2_PCS1/FXIO0_D19, 66 PTB20/LPSPI2_PCS0/CMP0_OUT, 67 PTB21/LPSPI2_SCK/CMP1_OUT, 68 PTB22/LPSPI2_SOUT, 69 PTB23/LPSPI2_SIN
part C pins: 70 ADC0_SE14/TSI0_CH13/PTC0/LPSPI2_PCS1/USB_SOF_OUT/CMP0_OUT, 71 ~{ADC0_SE15}/TSI0_CH14/PTC1/LLWU_P6/LPI2C1_SCL/~{LPUART1_RTS_b}/TPM0_CH0, 72 ~{ADC0_SE11}/CMP1_IN0/TSI0_CH15/PTC2/LPI2C1_SDA/~{LPUART1_CTS_b}/TPM0_CH1, 73 CMP1_IN1/PTC3/LLWU_P7/LPSPI0_PCS1/LPUART1_RX/TPM0_CH2/CLKOUT, 76 PTC4/LLWU_P8/LPSPI0_PCS0/LPUART1_TX/TPM0_CH3/CMP1_OUT, 77 PTC5/LLWU_P9/LPSPI0_SCK/LPTMR0_ALT2/LPTMR1_ALT2/CMP0_OUT, 78 CMP0_IN0/PTC6/LLWU_P10/LPSPI0_SOUT, 79 CMP0_IN1/PTC7/LPSPI0_SIN/USB_SOF_OUT/FXIO0_D20, 80 CMP0_IN2/PTC8/LPI2C0_SCL/TPM0_CH4/FXIO0_D21, 81 CMP0_IN3/PTC9/LPI2C0_SDA/TPM0_CH5/FXIO0_D22, 82 PTC10/LPI2C1_SCL/FXIO0_D23, 83 PTC11/LLWU_P11/LPI2C1_SDA, 84 PTC12/LPI2C1_SCLS/TPM0_CLKIN, 85 PTC13/LPI2C1_SDAS/TPM1_CLKIN, 86 PTC14/EMVSIM0_CLK, 90 PTC16/EMVSIM0_VCCEN, 91 PTC17/EMVSIM0_IO/LPSPI0_PCS3, 92 PTC18/EMVSIM0_PD/LPSPI0_PCS2, 93 ~{PTD0}/LLWU_P12/LPSPI0_PCS0/~{LPUART2_RTS_b}/TPM0_CH0/FXIO0_D0, 94 ~{ADC0_SE5b}/PTD1/LPSPI0_SCK/~{LPUART2_CTS_b}/TPM0_CH1/FXIO0_D1, 95 PTD2/LLWU_P13/LPSPI0_SOUT/LPUART2_RX/TPM0_CH2/FXIO0_D2, 96 PTD3/LPSPI0_SIN/LPUART2_TX/TPM0_CH3/FXIO0_D3, 97 ~{PTD4}/LLWU_P14/LPSPI1_PCS0/LPUART2_RX/TPM0_CH4/~{LPUART0_RTS_b}/FXIO0_D4, 98 ~{ADC0_SE6b}/PTD5/LPSPI1_SCK/LPUART2_TX/TPM0_CH5/~{LPUART0_CTS_b}/FXIO0_D5, 99 ADC0_SE7b/PTD6/LLWU_P15/LPSPI1_SOUT/LPUART0_RX/FXIO0_D6, 100 PTD7/LPSPI1_SIN/LPUART0_TX/FXIO0_D7
part D pins: 1 ADC0_SE16/PTE0/RTC_CLKOUT/LPSPI1_SIN/LPUART1_TX/CMP0_OUT/LPI2C1_SDA, 2 ADC0_SE17/PTE1/LLWU_P0/LPSPI1_SOUT/LPUART1_RX/LPI2C1_SCL, 3 ~{ADC0_SE18}/PTE2/LLWU_P1/LPSPI1_SCK/~{LPUART1_CTS_b}/LPI2C1_SDAS, 4 ~{ADC0_SE19}/PTE3/LPSPI1_SIN/~{LPUART1_RTS_b}/LPI2C1_SCLS, 5 PTE4/LLWU_P2/LPSPI1_PCS0, 6 PTE5/LPSPI1_PCS1, 7 PTE6/LLWU_P16/LPSPI1_PCS2/USB_SOF_OUT, 14 ADC0_DP1/ADC0_SE1/PTE16/LPSPI0_PCS0/LPUART2_TX/TPM0_CLKIN/LPSPI1_PCS3/FXIO0_D0, 15 ADC0_DM1/ADC0_SE5a/PTE17/LLWU_P19/LPSPI0_SCK/LPUART2_RX/TPM1_CLKIN/LPTMR0_ALT3/LPTMR1_ALT3/FXIO0_D1, 16 ~{ADC0_DP2}/ADC0_SE2/PTE18/LLWU_P20/LPSPI0_SOUT/~{LPUART2_CTS_b}/LPI2C0_SDA/FXIO0_D2, 17 ~{ADC0_DM2}/ADC0_SE6a/PTE19/LPSPI0_SIN/~{LPUART2_RTS_b}/LPI2C0_SCL/FXIO0_D3, 18 ADC0_DP0/ADC0_SE0/PTE20/LPSPI2_SCK/TPM1_CH0/LPUART0_TX/FXIO0_D4, 19 ADC0_DM0/ADC0_SE4a/PTE21/LPSPI2_SOUT/TPM1_CH1/LPUART0_RX/FXIO0_D5, 20 ADC0_DP3/ADC0_SE3/PTE22/LPSPI2_SIN/TPM2_CH0/LPUART2_TX/FXIO0_D6, 21 ADC0_DM3/ADC0_SE7a/PTE23/LPSPI2_PCS0/TPM2_CH1/LPUART2_RX/FXIO0_D7, 26 CMP1_IN5/CMP0_IN5/ADC0_SE4b/PTE29/EMVSIM0_CLK/TPM0_CH2/TPM0_CLKIN, 27 DAC0_OUT/CMP1_IN3/ADC0_SE23/CMP0_IN4/PTE30/EMVSIM0_RST/TPM0_CH3/TPM1_CLKIN, 28 PTE31/EMVSIM0_VCCEN/TPM0_CH4/TPM2_CLKIN/LPI2C0_HREQ, 31 ADC0_SE20/PTE24/EMVSIM0_IO/TPM0_CH0/LPI2C0_SCL, 32 ADC0_SE21/PTE25/LLWU_P21/EMVSIM0_PD/TPM0_CH1/LPI2C0_SDA, 33 PTE26/RTC_CLKOUT/TPM0_CH5/LPI2C0_SCLS/USB_CLKIN

## 0020 NXP K32L2A41VLH1A
designator IC?  (value not drawn)
part A pins: 3 VDD8, 4 VSS9, 5 USB0_DP, 6 USB0_DM, 7 VOUT33, 8 VREGIN, 13 VDDA, 14 VREFH/VREF_OUT, 15 VREFL, 16 VSSA, 22 ~{TSI0_CH1}/PTA0/~{LPUART0_CTS_b}/TPM0_CH5/LPI2C0_SDAS/SWD_CLK, 23 TSI0_CH2/PTA1/LPUART0_RX/TPM2_CH0, 24 TSI0_CH3/PTA2/LPUART0_TX/TPM2_CH1, 25 ~{TSI0_CH4}/PTA3/LPI2C1_SCL/TPM0_CH0/~{LPUART0_RTS_b}/SWD_DIO, 26 ~{TSI0_CH5}/PTA4/LLWU_P3/LPI2C1_SDA/TPM0_CH1/~{NMI0_b}, 27 PTA5/USB_CLKIN/TPM0_CH2/LPI2C2_HREQ, 28 PTA12/TPM1_CH0/LPI2C2_SCL, 29 PTA13/LLWU_P4/TPM1_CH1/LPI2C2_SDA, 30 VDD48, 31 VSS49, 32 EXTAL0/PTA18/LPUART1_RX/TPM0_CLKIN, 33 XTAL0/PTA19/LPUART1_TX/TPM1_CLKIN/LPTMR0_ALT1/LPTMR1_ALT1, 34 ~{PTA20}/LPI2C0_SCLS/TPM2_CLKIN/~{RESET_b}, 35 ADC0_SE8/TSI0_CH0/PTB0/LLWU_P5/LPI2C0_SCL/TPM1_CH0/FXIO0_D8, 36 ADC0_SE9/TSI0_CH6/PTB1/LPI2C0_SDA/TPM1_CH1/FXIO0_D9, 37 ~{ADC0_SE12}/TSI0_CH7/PTB2/LPI2C0_SCL/TPM2_CH0/~{LPUART0_RTS_b}/FXIO0_D10, 38 ~{ADC0_SE13}/TSI0_CH8/PTB3/LPI2C0_SDA/TPM2_CH1/LPSPI1_PCS3/~{LPUART0_CTS_b}/FXIO0_D11, 39 TSI0_CH9/PTB16/LPSPI1_SOUT/LPUART0_RX/TPM0_CLKIN/LPSPI2_PCS3/FXIO0_D16, 40 TSI0_CH10/PTB17/LPSPI1_SIN/LPUART0_TX/TPM1_CLKIN/LPSPI2_PCS2/FXIO0_D17, 41 TSI0_CH11/PTB18/TPM2_CH0/LPI2C1_HREQ/FXIO0_D18, 42 TSI0_CH12/PTB19/TPM2_CH1/LPSPI2_PCS1/FXIO0_D19, 47 VSS74, 48 VDD75
part B pins: 43 ADC0_SE14/TSI0_CH13/PTC0/LPSPI2_PCS1/USB_SOF_OUT/CMP0_OUT, 44 ~{ADC0_SE15}/TSI0_CH14/PTC1/LLWU_P6/LPI2C1_SCL/~{LPUART1_RTS_b}/TPM0_CH0, 45 ~{ADC0_SE11}/CMP1_IN0/TSI0_CH15/PTC2/LPI2C1_SDA/~{LPUART1_CTS_b}/TPM0_CH1, 46 CMP1_IN1/PTC3/LLWU_P7/LPSPI0_PCS1/LPUART1_RX/TPM0_CH2/CLKOUT, 49 PTC4/LLWU_P8/LPSPI0_PCS0/LPUART1_TX/TPM0_CH3/CMP1_OUT, 50 PTC5/LLWU_P9/LPSPI0_SCK/LPTMR0_ALT2/LPTMR1_ALT2/CMP0_OUT, 51 CMP0_IN0/PTC6/LLWU_P10/LPSPI0_SOUT, 52 CMP0_IN1/PTC7/LPSPI0_SIN/USB_SOF_OUT/FXIO0_D20, 53 CMP0_IN2/PTC8/LPI2C0_SCL/TPM0_CH4/FXIO0_D21, 54 CMP0_IN3/PTC9/LPI2C0_SDA/TPM0_CH5/FXIO0_D22, 55 PTC10/LPI2C1_SCL/FXIO0_D23, 56 PTC11/LLWU_P11/LPI2C1_SDA, 57 ~{PTD0}/LLWU_P12/LPSPI0_PCS0/~{LPUART2_RTS_b}/TPM0_CH0/FXIO0_D0, 58 ~{ADC0_SE5b}/PTD1/LPSPI0_SCK/~{LPUART2_CTS_b}/TPM0_CH1/FXIO0_D1, 59 PTD2/LLWU_P13/LPSPI0_SOUT/LPUART2_RX/TPM0_CH2/FXIO0_D2, 60 PTD3/LPSPI0_SIN/LPUART2_TX/TPM0_CH3/FXIO0_D3, 61 ~{PTD4}/LLWU_P14/LPSPI1_PCS0/LPUART2_RX/TPM0_CH4/~{LPUART0_RTS_b}/FXIO0_D4, 62 ~{ADC0_SE6b}/PTD5/LPSPI1_SCK/LPUART2_TX/TPM0_CH5/~{LPUART0_CTS_b}/FXIO0_D5, 63 ADC0_SE7b/PTD6/LLWU_P15/LPSPI1_SOUT/LPUART0_RX/FXIO0_D6, 64 PTD7/LPSPI1_SIN/LPUART0_TX/FXIO0_D7
part C pins: 1 ADC0_SE16/PTE0/RTC_CLKOUT/LPSPI1_SIN/LPUART1_TX/CMP0_OUT/LPI2C1_SDA, 2 ADC0_SE17/PTE1/LLWU_P0/LPSPI1_SOUT/LPUART1_RX/LPI2C1_SCL, 9 ADC0_DP0/ADC0_SE0/PTE20/LPSPI2_SCK/TPM1_CH0/LPUART0_TX/FXIO0_D4, 10 ADC0_DM0/ADC0_SE4a/PTE21/LPSPI2_SOUT/TPM1_CH1/LPUART0_RX/FXIO0_D5, 11 ADC0_DP3/ADC0_SE3/PTE22/LPSPI2_SIN/TPM2_CH0/LPUART2_TX/FXIO0_D6, 12 ADC0_DM3/ADC0_SE7a/PTE23/LPSPI2_PCS0/TPM2_CH1/LPUART2_RX/FXIO0_D7, 17 CMP1_IN5/CMP0_IN5/ADC0_SE4b/PTE29/EMVSIM0_CLK/TPM0_CH2/TPM0_CLKIN, 18 DAC0_OUT/CMP1_IN3/ADC0_SE23/CMP0_IN4/PTE30/EMVSIM0_RST/TPM0_CH3/TPM1_CLKIN, 19 PTE31/EMVSIM0_VCCEN/TPM0_CH4/TPM2_CLKIN/LPI2C0_HREQ, 20 ADC0_SE20/PTE24/EMVSIM0_IO/TPM0_CH0/LPI2C0_SCL, 21 ADC0_SE21/PTE25/LLWU_P21/EMVSIM0_PD/TPM0_CH1/LPI2C0_SDA

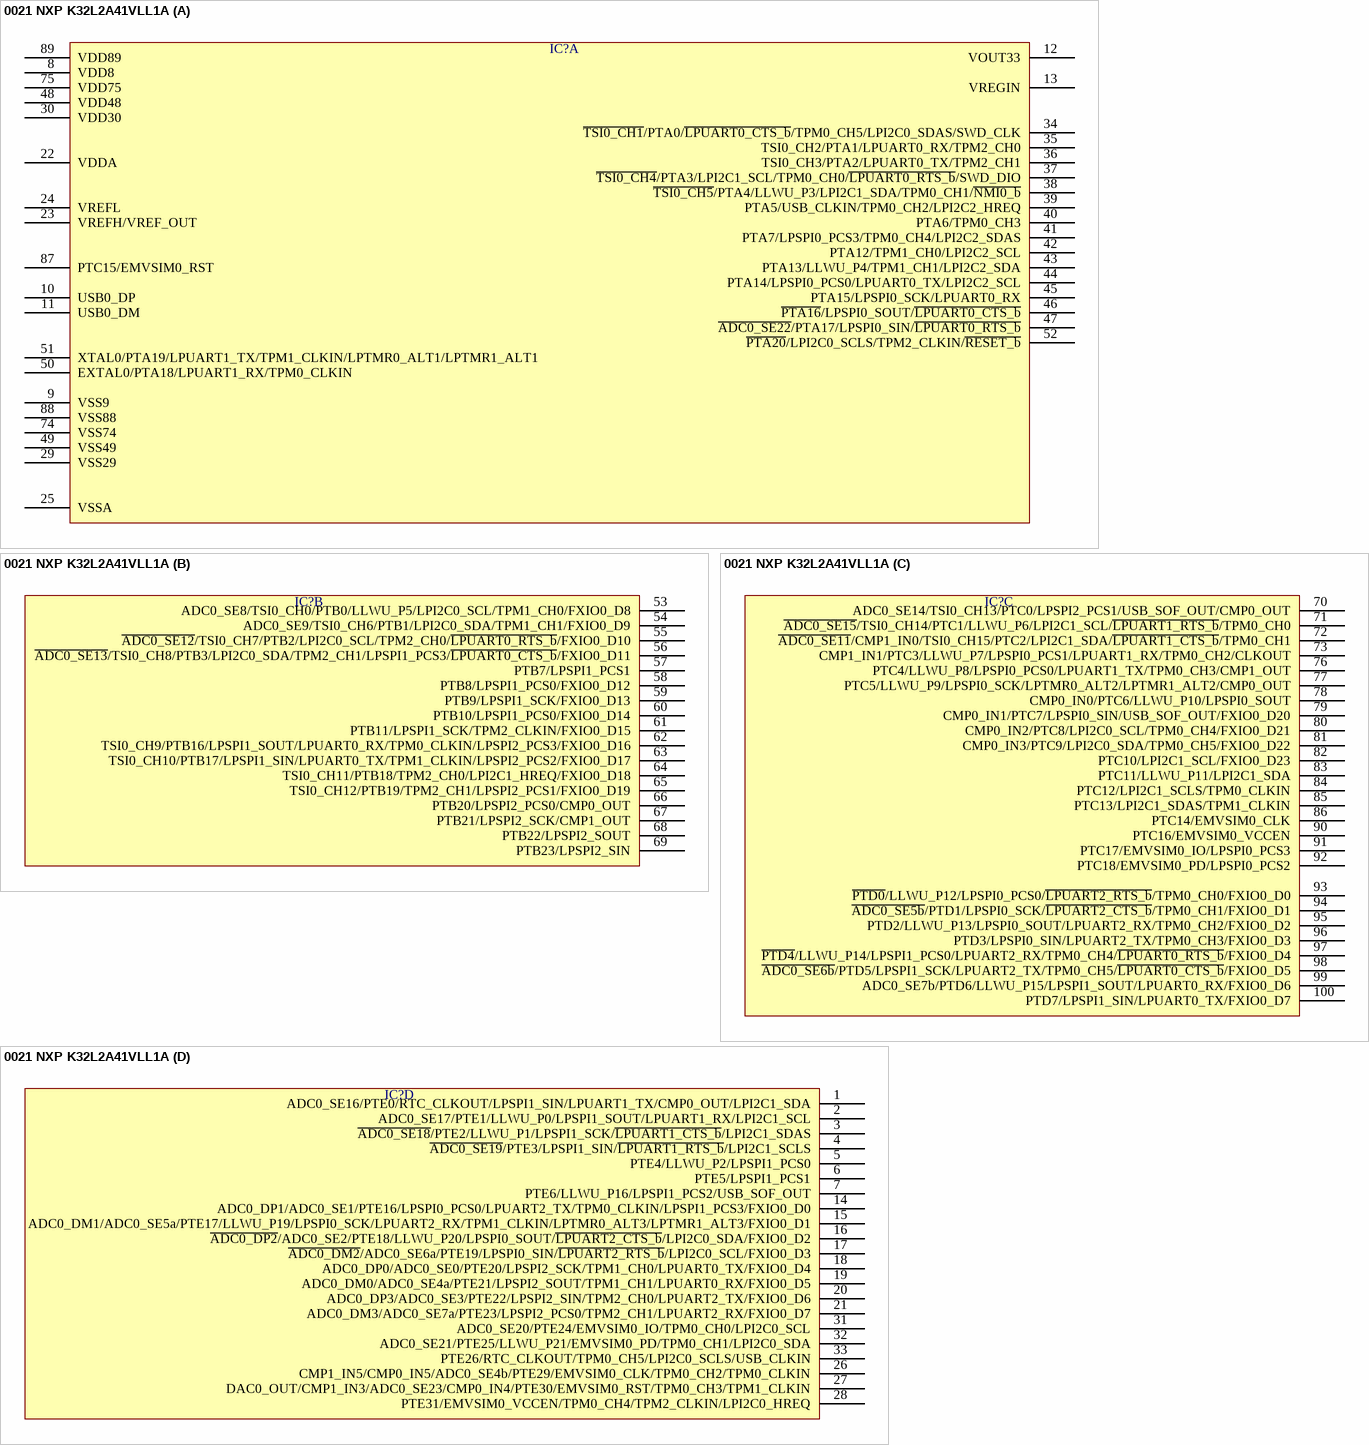
[diagram p5: symbol 0021 NXP K32L2A41VLL1A]

## 0021 NXP K32L2A41VLL1A
designator IC?  (value not drawn)
part A pins: 8 VDD8, 9 VSS9, 10 USB0_DP, 11 USB0_DM, 12 VOUT33, 13 VREGIN, 22 VDDA, 23 VREFH/VREF_OUT, 24 VREFL, 25 VSSA, 29 VSS29, 30 VDD30, 34 ~{TSI0_CH1}/PTA0/~{LPUART0_CTS_b}/TPM0_CH5/LPI2C0_SDAS/SWD_CLK, 35 TSI0_CH2/PTA1/LPUART0_RX/TPM2_CH0, 36 TSI0_CH3/PTA2/LPUART0_TX/TPM2_CH1, 37 ~{TSI0_CH4}/PTA3/LPI2C1_SCL/TPM0_CH0/~{LPUART0_RTS_b}/SWD_DIO, 38 ~{TSI0_CH5}/PTA4/LLWU_P3/LPI2C1_SDA/TPM0_CH1/~{NMI0_b}, 39 PTA5/USB_CLKIN/TPM0_CH2/LPI2C2_HREQ, 40 PTA6/TPM0_CH3, 41 PTA7/LPSPI0_PCS3/TPM0_CH4/LPI2C2_SDAS, 42 PTA12/TPM1_CH0/LPI2C2_SCL, 43 PTA13/LLWU_P4/TPM1_CH1/LPI2C2_SDA, 44 PTA14/LPSPI0_PCS0/LPUART0_TX/LPI2C2_SCL, 45 PTA15/LPSPI0_SCK/LPUART0_RX, 46 ~{PTA16}/LPSPI0_SOUT/~{LPUART0_CTS_b}, 47 ~{ADC0_SE22}/PTA17/LPSPI0_SIN/~{LPUART0_RTS_b}, 48 VDD48, 49 VSS49, 50 EXTAL0/PTA18/LPUART1_RX/TPM0_CLKIN, 51 XTAL0/PTA19/LPUART1_TX/TPM1_CLKIN/LPTMR0_ALT1/LPTMR1_ALT1, 52 ~{PTA20}/LPI2C0_SCLS/TPM2_CLKIN/~{RESET_b}, 74 VSS74, 75 VDD75, 87 PTC15/EMVSIM0_RST, 88 VSS88, 89 VDD89
part B pins: 53 ADC0_SE8/TSI0_CH0/PTB0/LLWU_P5/LPI2C0_SCL/TPM1_CH0/FXIO0_D8, 54 ADC0_SE9/TSI0_CH6/PTB1/LPI2C0_SDA/TPM1_CH1/FXIO0_D9, 55 ~{ADC0_SE12}/TSI0_CH7/PTB2/LPI2C0_SCL/TPM2_CH0/~{LPUART0_RTS_b}/FXIO0_D10, 56 ~{ADC0_SE13}/TSI0_CH8/PTB3/LPI2C0_SDA/TPM2_CH1/LPSPI1_PCS3/~{LPUART0_CTS_b}/FXIO0_D11, 57 PTB7/LPSPI1_PCS1, 58 PTB8/LPSPI1_PCS0/FXIO0_D12, 59 PTB9/LPSPI1_SCK/FXIO0_D13, 60 PTB10/LPSPI1_PCS0/FXIO0_D14, 61 PTB11/LPSPI1_SCK/TPM2_CLKIN/FXIO0_D15, 62 TSI0_CH9/PTB16/LPSPI1_SOUT/LPUART0_RX/TPM0_CLKIN/LPSPI2_PCS3/FXIO0_D16, 63 TSI0_CH10/PTB17/LPSPI1_SIN/LPUART0_TX/TPM1_CLKIN/LPSPI2_PCS2/FXIO0_D17, 64 TSI0_CH11/PTB18/TPM2_CH0/LPI2C1_HREQ/FXIO0_D18, 65 TSI0_CH12/PTB19/TPM2_CH1/LPSPI2_PCS1/FXIO0_D19, 66 PTB20/LPSPI2_PCS0/CMP0_OUT, 67 PTB21/LPSPI2_SCK/CMP1_OUT, 68 PTB22/LPSPI2_SOUT, 69 PTB23/LPSPI2_SIN
part C pins: 70 ADC0_SE14/TSI0_CH13/PTC0/LPSPI2_PCS1/USB_SOF_OUT/CMP0_OUT, 71 ~{ADC0_SE15}/TSI0_CH14/PTC1/LLWU_P6/LPI2C1_SCL/~{LPUART1_RTS_b}/TPM0_CH0, 72 ~{ADC0_SE11}/CMP1_IN0/TSI0_CH15/PTC2/LPI2C1_SDA/~{LPUART1_CTS_b}/TPM0_CH1, 73 CMP1_IN1/PTC3/LLWU_P7/LPSPI0_PCS1/LPUART1_RX/TPM0_CH2/CLKOUT, 76 PTC4/LLWU_P8/LPSPI0_PCS0/LPUART1_TX/TPM0_CH3/CMP1_OUT, 77 PTC5/LLWU_P9/LPSPI0_SCK/LPTMR0_ALT2/LPTMR1_ALT2/CMP0_OUT, 78 CMP0_IN0/PTC6/LLWU_P10/LPSPI0_SOUT, 79 CMP0_IN1/PTC7/LPSPI0_SIN/USB_SOF_OUT/FXIO0_D20, 80 CMP0_IN2/PTC8/LPI2C0_SCL/TPM0_CH4/FXIO0_D21, 81 CMP0_IN3/PTC9/LPI2C0_SDA/TPM0_CH5/FXIO0_D22, 82 PTC10/LPI2C1_SCL/FXIO0_D23, 83 PTC11/LLWU_P11/LPI2C1_SDA, 84 PTC12/LPI2C1_SCLS/TPM0_CLKIN, 85 PTC13/LPI2C1_SDAS/TPM1_CLKIN, 86 PTC14/EMVSIM0_CLK, 90 PTC16/EMVSIM0_VCCEN, 91 PTC17/EMVSIM0_IO/LPSPI0_PCS3, 92 PTC18/EMVSIM0_PD/LPSPI0_PCS2, 93 ~{PTD0}/LLWU_P12/LPSPI0_PCS0/~{LPUART2_RTS_b}/TPM0_CH0/FXIO0_D0, 94 ~{ADC0_SE5b}/PTD1/LPSPI0_SCK/~{LPUART2_CTS_b}/TPM0_CH1/FXIO0_D1, 95 PTD2/LLWU_P13/LPSPI0_SOUT/LPUART2_RX/TPM0_CH2/FXIO0_D2, 96 PTD3/LPSPI0_SIN/LPUART2_TX/TPM0_CH3/FXIO0_D3, 97 ~{PTD4}/LLWU_P14/LPSPI1_PCS0/LPUART2_RX/TPM0_CH4/~{LPUART0_RTS_b}/FXIO0_D4, 98 ~{ADC0_SE6b}/PTD5/LPSPI1_SCK/LPUART2_TX/TPM0_CH5/~{LPUART0_CTS_b}/FXIO0_D5, 99 ADC0_SE7b/PTD6/LLWU_P15/LPSPI1_SOUT/LPUART0_RX/FXIO0_D6, 100 PTD7/LPSPI1_SIN/LPUART0_TX/FXIO0_D7
part D pins: 1 ADC0_SE16/PTE0/RTC_CLKOUT/LPSPI1_SIN/LPUART1_TX/CMP0_OUT/LPI2C1_SDA, 2 ADC0_SE17/PTE1/LLWU_P0/LPSPI1_SOUT/LPUART1_RX/LPI2C1_SCL, 3 ~{ADC0_SE18}/PTE2/LLWU_P1/LPSPI1_SCK/~{LPUART1_CTS_b}/LPI2C1_SDAS, 4 ~{ADC0_SE19}/PTE3/LPSPI1_SIN/~{LPUART1_RTS_b}/LPI2C1_SCLS, 5 PTE4/LLWU_P2/LPSPI1_PCS0, 6 PTE5/LPSPI1_PCS1, 7 PTE6/LLWU_P16/LPSPI1_PCS2/USB_SOF_OUT, 14 ADC0_DP1/ADC0_SE1/PTE16/LPSPI0_PCS0/LPUART2_TX/TPM0_CLKIN/LPSPI1_PCS3/FXIO0_D0, 15 ADC0_DM1/ADC0_SE5a/PTE17/LLWU_P19/LPSPI0_SCK/LPUART2_RX/TPM1_CLKIN/LPTMR0_ALT3/LPTMR1_ALT3/FXIO0_D1, 16 ~{ADC0_DP2}/ADC0_SE2/PTE18/LLWU_P20/LPSPI0_SOUT/~{LPUART2_CTS_b}/LPI2C0_SDA/FXIO0_D2, 17 ~{ADC0_DM2}/ADC0_SE6a/PTE19/LPSPI0_SIN/~{LPUART2_RTS_b}/LPI2C0_SCL/FXIO0_D3, 18 ADC0_DP0/ADC0_SE0/PTE20/LPSPI2_SCK/TPM1_CH0/LPUART0_TX/FXIO0_D4, 19 ADC0_DM0/ADC0_SE4a/PTE21/LPSPI2_SOUT/TPM1_CH1/LPUART0_RX/FXIO0_D5, 20 ADC0_DP3/ADC0_SE3/PTE22/LPSPI2_SIN/TPM2_CH0/LPUART2_TX/FXIO0_D6, 21 ADC0_DM3/ADC0_SE7a/PTE23/LPSPI2_PCS0/TPM2_CH1/LPUART2_RX/FXIO0_D7, 26 CMP1_IN5/CMP0_IN5/ADC0_SE4b/PTE29/EMVSIM0_CLK/TPM0_CH2/TPM0_CLKIN, 27 DAC0_OUT/CMP1_IN3/ADC0_SE23/CMP0_IN4/PTE30/EMVSIM0_RST/TPM0_CH3/TPM1_CLKIN, 28 PTE31/EMVSIM0_VCCEN/TPM0_CH4/TPM2_CLKIN/LPI2C0_HREQ, 31 ADC0_SE20/PTE24/EMVSIM0_IO/TPM0_CH0/LPI2C0_SCL, 32 ADC0_SE21/PTE25/LLWU_P21/EMVSIM0_PD/TPM0_CH1/LPI2C0_SDA, 33 PTE26/RTC_CLKOUT/TPM0_CH5/LPI2C0_SCLS/USB_CLKIN

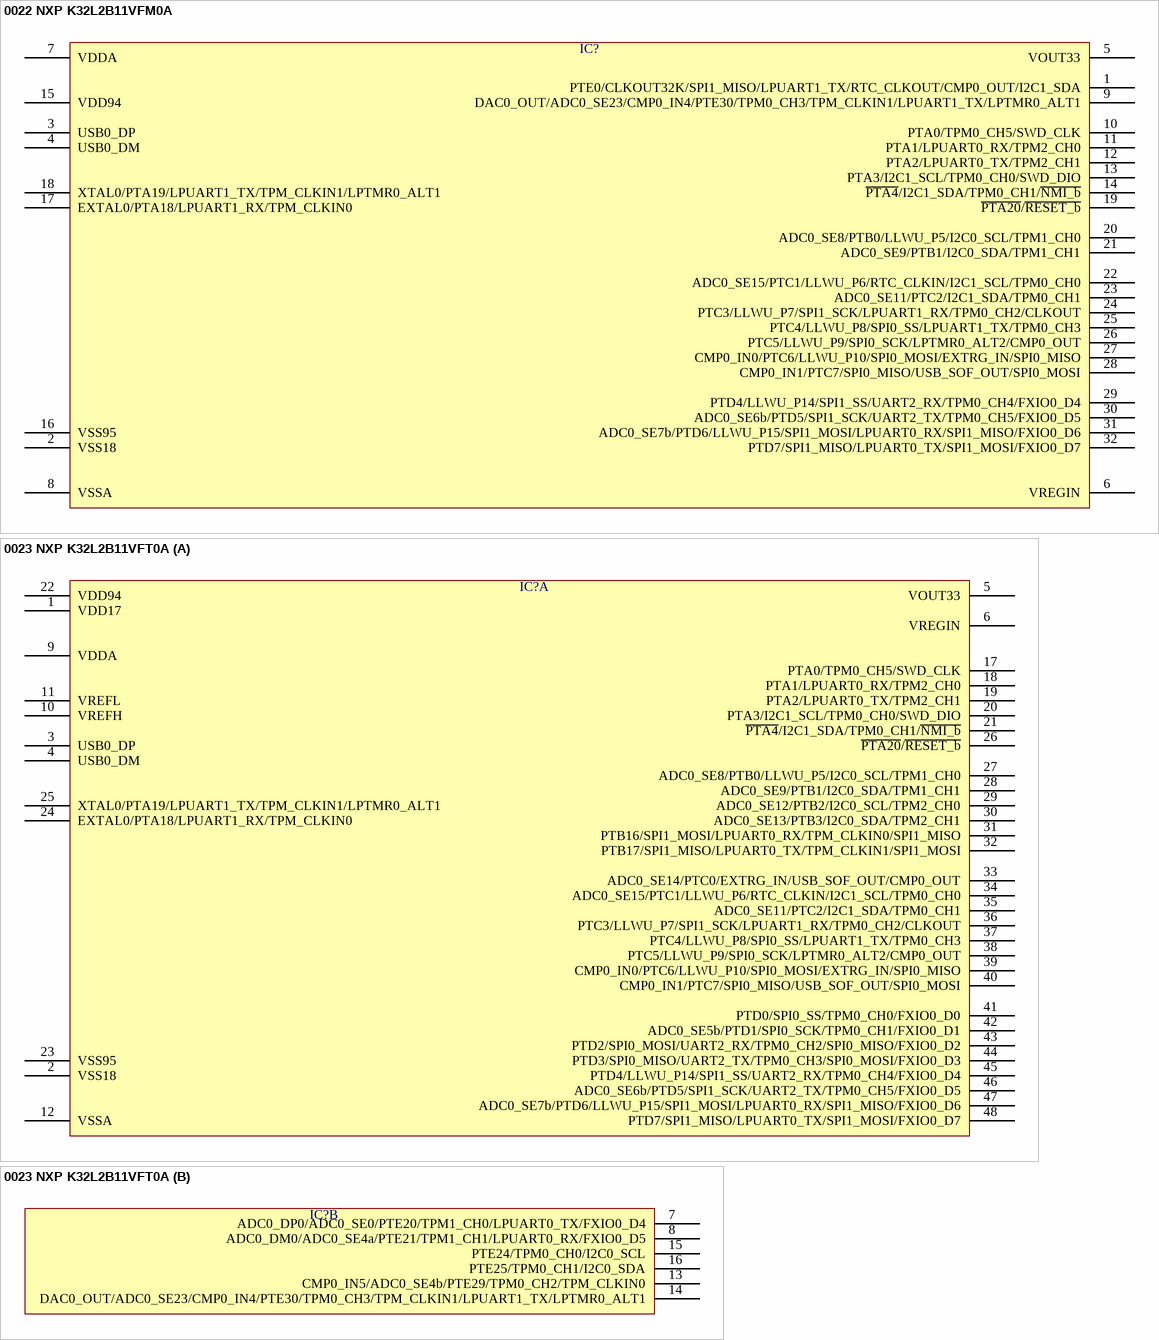
[diagram p6: symbols 0022 NXP K32L2B11VFM0A to 0023 NXP K32L2B11VFT0A]

## 0022 NXP K32L2B11VFM0A
designator IC?  (value not drawn)
pins: 1 PTE0/CLKOUT32K/SPI1_MISO/LPUART1_TX/RTC_CLKOUT/CMP0_OUT/I2C1_SDA, 2 VSS18, 3 USB0_DP, 4 USB0_DM, 5 VOUT33, 6 VREGIN, 7 VDDA, 8 VSSA, 9 DAC0_OUT/ADC0_SE23/CMP0_IN4/PTE30/TPM0_CH3/TPM_CLKIN1/LPUART1_TX/LPTMR0_ALT1, 10 PTA0/TPM0_CH5/SWD_CLK, 11 PTA1/LPUART0_RX/TPM2_CH0, 12 PTA2/LPUART0_TX/TPM2_CH1, 13 PTA3/I2C1_SCL/TPM0_CH0/SWD_DIO, 14 ~{PTA4}/I2C1_SDA/TPM0_CH1/~{NMI_b}, 15 VDD94, 16 VSS95, 17 EXTAL0/PTA18/LPUART1_RX/TPM_CLKIN0, 18 XTAL0/PTA19/LPUART1_TX/TPM_CLKIN1/LPTMR0_ALT1, 19 ~{PTA20}/~{RESET_b}, 20 ADC0_SE8/PTB0/LLWU_P5/I2C0_SCL/TPM1_CH0, 21 ADC0_SE9/PTB1/I2C0_SDA/TPM1_CH1, 22 ADC0_SE15/PTC1/LLWU_P6/RTC_CLKIN/I2C1_SCL/TPM0_CH0, 23 ADC0_SE11/PTC2/I2C1_SDA/TPM0_CH1, 24 PTC3/LLWU_P7/SPI1_SCK/LPUART1_RX/TPM0_CH2/CLKOUT, 25 PTC4/LLWU_P8/SPI0_SS/LPUART1_TX/TPM0_CH3, 26 PTC5/LLWU_P9/SPI0_SCK/LPTMR0_ALT2/CMP0_OUT, 27 CMP0_IN0/PTC6/LLWU_P10/SPI0_MOSI/EXTRG_IN/SPI0_MISO, 28 CMP0_IN1/PTC7/SPI0_MISO/USB_SOF_OUT/SPI0_MOSI, 29 PTD4/LLWU_P14/SPI1_SS/UART2_RX/TPM0_CH4/FXIO0_D4, 30 ADC0_SE6b/PTD5/SPI1_SCK/UART2_TX/TPM0_CH5/FXIO0_D5, 31 ADC0_SE7b/PTD6/LLWU_P15/SPI1_MOSI/LPUART0_RX/SPI1_MISO/FXIO0_D6, 32 PTD7/SPI1_MISO/LPUART0_TX/SPI1_MOSI/FXIO0_D7

## 0023 NXP K32L2B11VFT0A
designator IC?  (value not drawn)
part A pins: 1 VDD17, 2 VSS18, 3 USB0_DP, 4 USB0_DM, 5 VOUT33, 6 VREGIN, 9 VDDA, 10 VREFH, 11 VREFL, 12 VSSA, 17 PTA0/TPM0_CH5/SWD_CLK, 18 PTA1/LPUART0_RX/TPM2_CH0, 19 PTA2/LPUART0_TX/TPM2_CH1, 20 PTA3/I2C1_SCL/TPM0_CH0/SWD_DIO, 21 ~{PTA4}/I2C1_SDA/TPM0_CH1/~{NMI_b}, 22 VDD94, 23 VSS95, 24 EXTAL0/PTA18/LPUART1_RX/TPM_CLKIN0, 25 XTAL0/PTA19/LPUART1_TX/TPM_CLKIN1/LPTMR0_ALT1, 26 ~{PTA20}/~{RESET_b}, 27 ADC0_SE8/PTB0/LLWU_P5/I2C0_SCL/TPM1_CH0, 28 ADC0_SE9/PTB1/I2C0_SDA/TPM1_CH1, 29 ADC0_SE12/PTB2/I2C0_SCL/TPM2_CH0, 30 ADC0_SE13/PTB3/I2C0_SDA/TPM2_CH1, 31 PTB16/SPI1_MOSI/LPUART0_RX/TPM_CLKIN0/SPI1_MISO, 32 PTB17/SPI1_MISO/LPUART0_TX/TPM_CLKIN1/SPI1_MOSI, 33 ADC0_SE14/PTC0/EXTRG_IN/USB_SOF_OUT/CMP0_OUT, 34 ADC0_SE15/PTC1/LLWU_P6/RTC_CLKIN/I2C1_SCL/TPM0_CH0, 35 ADC0_SE11/PTC2/I2C1_SDA/TPM0_CH1, 36 PTC3/LLWU_P7/SPI1_SCK/LPUART1_RX/TPM0_CH2/CLKOUT, 37 PTC4/LLWU_P8/SPI0_SS/LPUART1_TX/TPM0_CH3, 38 PTC5/LLWU_P9/SPI0_SCK/LPTMR0_ALT2/CMP0_OUT, 39 CMP0_IN0/PTC6/LLWU_P10/SPI0_MOSI/EXTRG_IN/SPI0_MISO, 40 CMP0_IN1/PTC7/SPI0_MISO/USB_SOF_OUT/SPI0_MOSI, 41 PTD0/SPI0_SS/TPM0_CH0/FXIO0_D0, 42 ADC0_SE5b/PTD1/SPI0_SCK/TPM0_CH1/FXIO0_D1, 43 PTD2/SPI0_MOSI/UART2_RX/TPM0_CH2/SPI0_MISO/FXIO0_D2, 44 PTD3/SPI0_MISO/UART2_TX/TPM0_CH3/SPI0_MOSI/FXIO0_D3, 45 PTD4/LLWU_P14/SPI1_SS/UART2_RX/TPM0_CH4/FXIO0_D4, 46 ADC0_SE6b/PTD5/SPI1_SCK/UART2_TX/TPM0_CH5/FXIO0_D5, 47 ADC0_SE7b/PTD6/LLWU_P15/SPI1_MOSI/LPUART0_RX/SPI1_MISO/FXIO0_D6, 48 PTD7/SPI1_MISO/LPUART0_TX/SPI1_MOSI/FXIO0_D7
part B pins: 7 ADC0_DP0/ADC0_SE0/PTE20/TPM1_CH0/LPUART0_TX/FXIO0_D4, 8 ADC0_DM0/ADC0_SE4a/PTE21/TPM1_CH1/LPUART0_RX/FXIO0_D5, 13 CMP0_IN5/ADC0_SE4b/PTE29/TPM0_CH2/TPM_CLKIN0, 14 DAC0_OUT/ADC0_SE23/CMP0_IN4/PTE30/TPM0_CH3/TPM_CLKIN1/LPUART1_TX/LPTMR0_ALT1, 15 PTE24/TPM0_CH0/I2C0_SCL, 16 PTE25/TPM0_CH1/I2C0_SDA

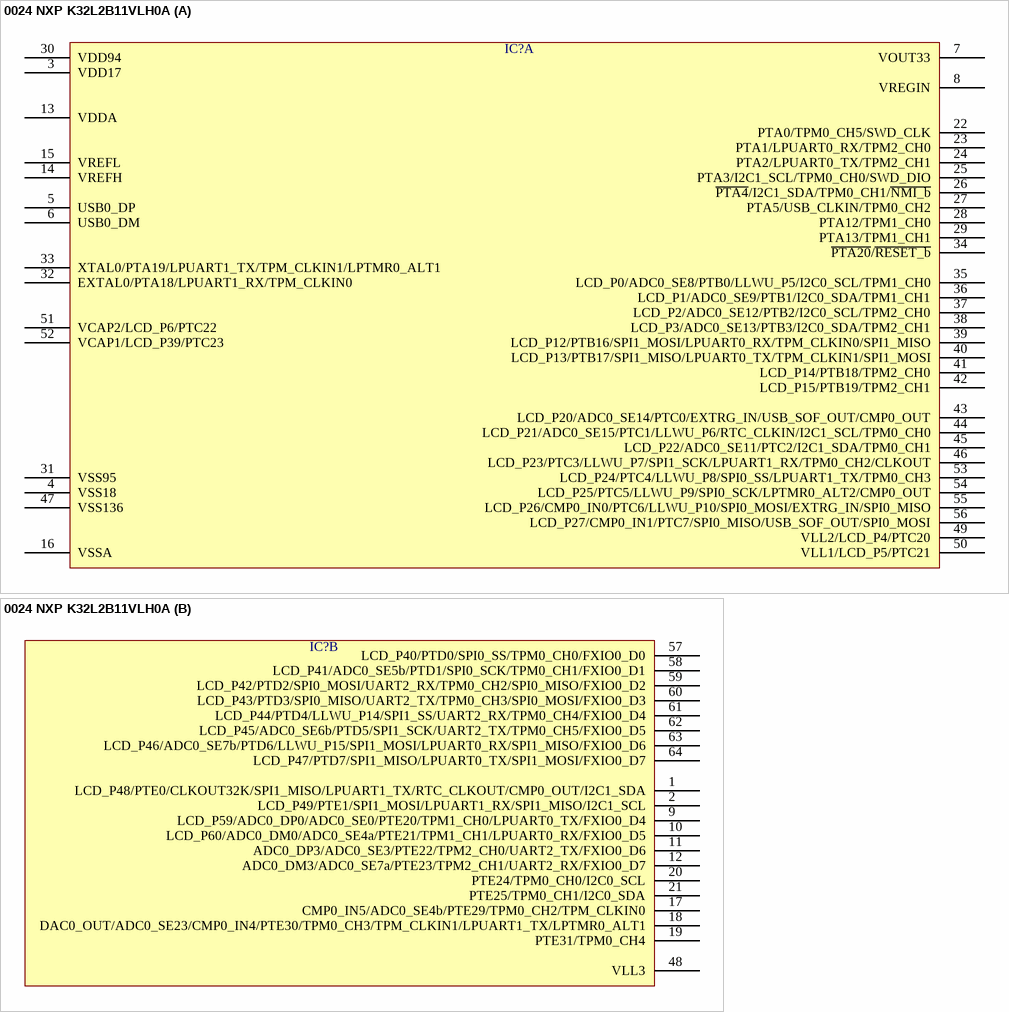
[diagram p7: symbol 0024 NXP K32L2B11VLH0A]

## 0024 NXP K32L2B11VLH0A
designator IC?  (value not drawn)
part A pins: 3 VDD17, 4 VSS18, 5 USB0_DP, 6 USB0_DM, 7 VOUT33, 8 VREGIN, 13 VDDA, 14 VREFH, 15 VREFL, 16 VSSA, 22 PTA0/TPM0_CH5/SWD_CLK, 23 PTA1/LPUART0_RX/TPM2_CH0, 24 PTA2/LPUART0_TX/TPM2_CH1, 25 PTA3/I2C1_SCL/TPM0_CH0/SWD_DIO, 26 ~{PTA4}/I2C1_SDA/TPM0_CH1/~{NMI_b}, 27 PTA5/USB_CLKIN/TPM0_CH2, 28 PTA12/TPM1_CH0, 29 PTA13/TPM1_CH1, 30 VDD94, 31 VSS95, 32 EXTAL0/PTA18/LPUART1_RX/TPM_CLKIN0, 33 XTAL0/PTA19/LPUART1_TX/TPM_CLKIN1/LPTMR0_ALT1, 34 ~{PTA20}/~{RESET_b}, 35 LCD_P0/ADC0_SE8/PTB0/LLWU_P5/I2C0_SCL/TPM1_CH0, 36 LCD_P1/ADC0_SE9/PTB1/I2C0_SDA/TPM1_CH1, 37 LCD_P2/ADC0_SE12/PTB2/I2C0_SCL/TPM2_CH0, 38 LCD_P3/ADC0_SE13/PTB3/I2C0_SDA/TPM2_CH1, 39 LCD_P12/PTB16/SPI1_MOSI/LPUART0_RX/TPM_CLKIN0/SPI1_MISO, 40 LCD_P13/PTB17/SPI1_MISO/LPUART0_TX/TPM_CLKIN1/SPI1_MOSI, 41 LCD_P14/PTB18/TPM2_CH0, 42 LCD_P15/PTB19/TPM2_CH1, 43 LCD_P20/ADC0_SE14/PTC0/EXTRG_IN/USB_SOF_OUT/CMP0_OUT, 44 LCD_P21/ADC0_SE15/PTC1/LLWU_P6/RTC_CLKIN/I2C1_SCL/TPM0_CH0, 45 LCD_P22/ADC0_SE11/PTC2/I2C1_SDA/TPM0_CH1, 46 LCD_P23/PTC3/LLWU_P7/SPI1_SCK/LPUART1_RX/TPM0_CH2/CLKOUT, 47 VSS136, 49 VLL2/LCD_P4/PTC20, 50 VLL1/LCD_P5/PTC21, 51 VCAP2/LCD_P6/PTC22, 52 VCAP1/LCD_P39/PTC23, 53 LCD_P24/PTC4/LLWU_P8/SPI0_SS/LPUART1_TX/TPM0_CH3, 54 LCD_P25/PTC5/LLWU_P9/SPI0_SCK/LPTMR0_ALT2/CMP0_OUT, 55 LCD_P26/CMP0_IN0/PTC6/LLWU_P10/SPI0_MOSI/EXTRG_IN/SPI0_MISO, 56 LCD_P27/CMP0_IN1/PTC7/SPI0_MISO/USB_SOF_OUT/SPI0_MOSI
part B pins: 1 LCD_P48/PTE0/CLKOUT32K/SPI1_MISO/LPUART1_TX/RTC_CLKOUT/CMP0_OUT/I2C1_SDA, 2 LCD_P49/PTE1/SPI1_MOSI/LPUART1_RX/SPI1_MISO/I2C1_SCL, 9 LCD_P59/ADC0_DP0/ADC0_SE0/PTE20/TPM1_CH0/LPUART0_TX/FXIO0_D4, 10 LCD_P60/ADC0_DM0/ADC0_SE4a/PTE21/TPM1_CH1/LPUART0_RX/FXIO0_D5, 11 ADC0_DP3/ADC0_SE3/PTE22/TPM2_CH0/UART2_TX/FXIO0_D6, 12 ADC0_DM3/ADC0_SE7a/PTE23/TPM2_CH1/UART2_RX/FXIO0_D7, 17 CMP0_IN5/ADC0_SE4b/PTE29/TPM0_CH2/TPM_CLKIN0, 18 DAC0_OUT/ADC0_SE23/CMP0_IN4/PTE30/TPM0_CH3/TPM_CLKIN1/LPUART1_TX/LPTMR0_ALT1, 19 PTE31/TPM0_CH4, 20 PTE24/TPM0_CH0/I2C0_SCL, 21 PTE25/TPM0_CH1/I2C0_SDA, 48 VLL3, 57 LCD_P40/PTD0/SPI0_SS/TPM0_CH0/FXIO0_D0, 58 LCD_P41/ADC0_SE5b/PTD1/SPI0_SCK/TPM0_CH1/FXIO0_D1, 59 LCD_P42/PTD2/SPI0_MOSI/UART2_RX/TPM0_CH2/SPI0_MISO/FXIO0_D2, 60 LCD_P43/PTD3/SPI0_MISO/UART2_TX/TPM0_CH3/SPI0_MOSI/FXIO0_D3, 61 LCD_P44/PTD4/LLWU_P14/SPI1_SS/UART2_RX/TPM0_CH4/FXIO0_D4, 62 LCD_P45/ADC0_SE6b/PTD5/SPI1_SCK/UART2_TX/TPM0_CH5/FXIO0_D5, 63 LCD_P46/ADC0_SE7b/PTD6/LLWU_P15/SPI1_MOSI/LPUART0_RX/SPI1_MISO/FXIO0_D6, 64 LCD_P47/PTD7/SPI1_MISO/LPUART0_TX/SPI1_MOSI/FXIO0_D7

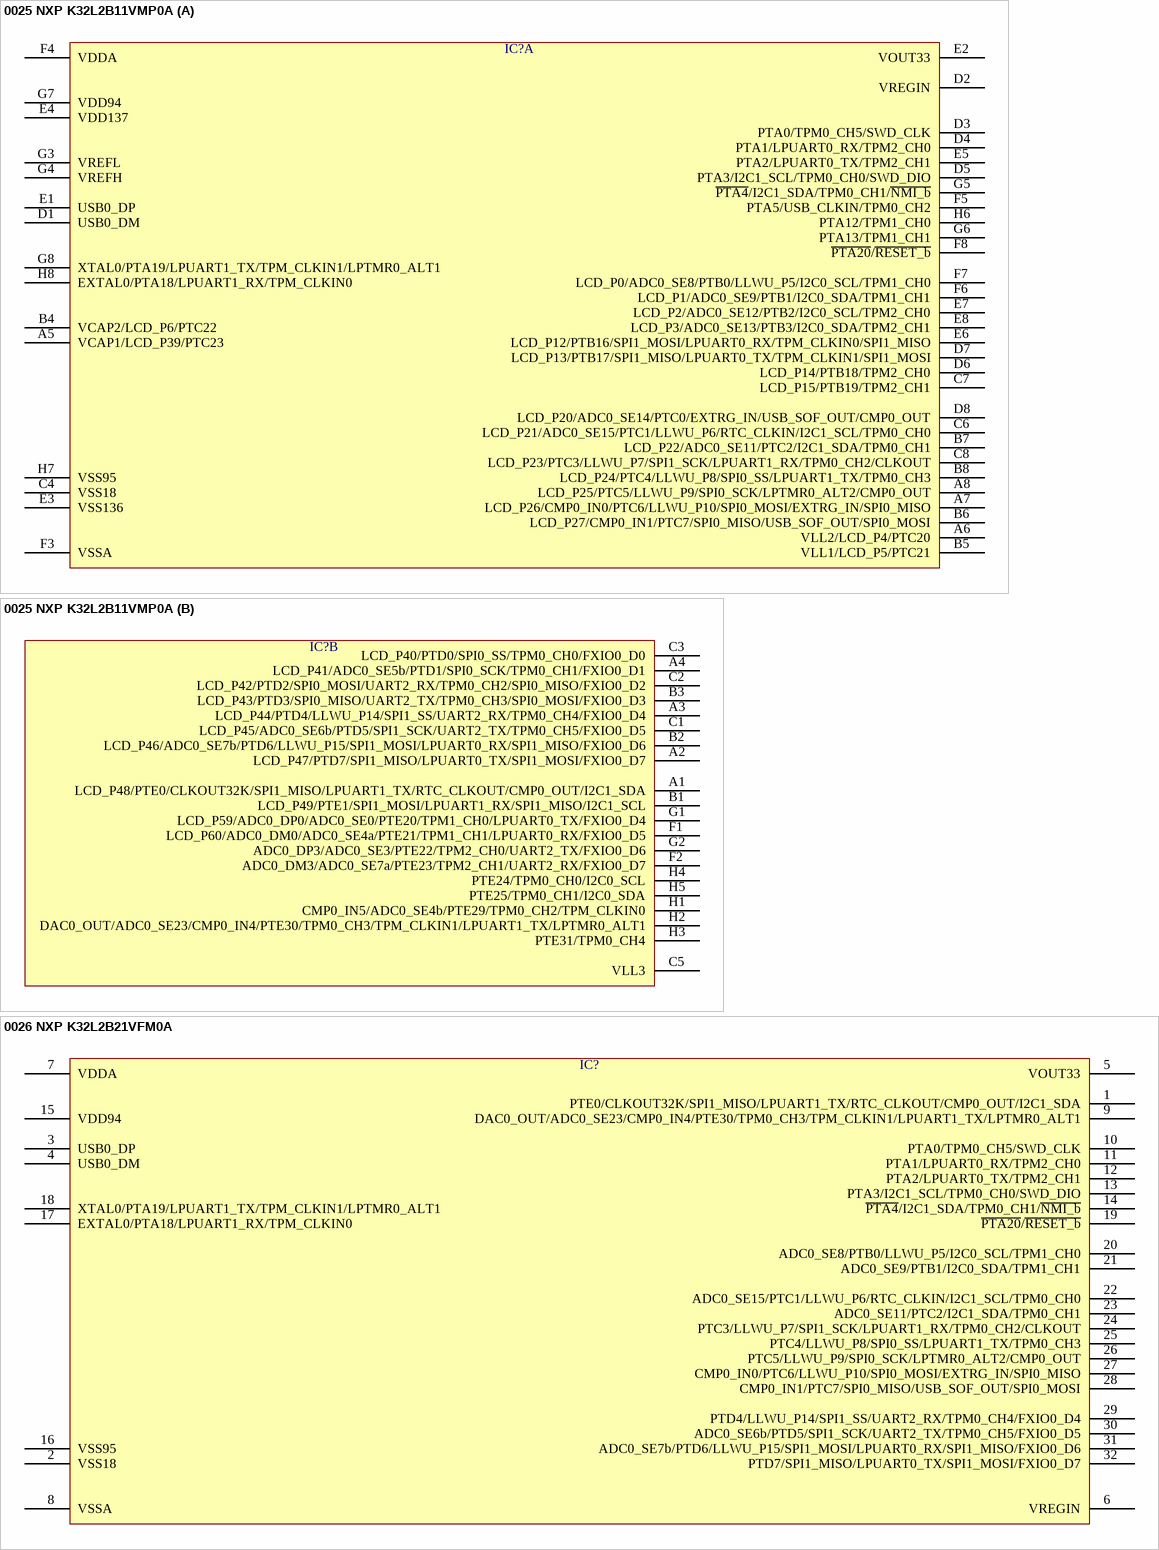
[diagram p8: symbols 0025 NXP K32L2B11VMP0A to 0026 NXP K32L2B21VFM0A]

## 0025 NXP K32L2B11VMP0A
designator IC?  (value not drawn)
part A pins: A5 VCAP1/LCD_P39/PTC23, A6 VLL2/LCD_P4/PTC20, A7 LCD_P26/CMP0_IN0/PTC6/LLWU_P10/SPI0_MOSI/EXTRG_IN/SPI0_MISO, A8 LCD_P25/PTC5/LLWU_P9/SPI0_SCK/LPTMR0_ALT2/CMP0_OUT, B4 VCAP2/LCD_P6/PTC22, B5 VLL1/LCD_P5/PTC21, B6 LCD_P27/CMP0_IN1/PTC7/SPI0_MISO/USB_SOF_OUT/SPI0_MOSI, B7 LCD_P22/ADC0_SE11/PTC2/I2C1_SDA/TPM0_CH1, B8 LCD_P24/PTC4/LLWU_P8/SPI0_SS/LPUART1_TX/TPM0_CH3, C4 VSS18, C6 LCD_P21/ADC0_SE15/PTC1/LLWU_P6/RTC_CLKIN/I2C1_SCL/TPM0_CH0, C7 LCD_P15/PTB19/TPM2_CH1, C8 LCD_P23/PTC3/LLWU_P7/SPI1_SCK/LPUART1_RX/TPM0_CH2/CLKOUT, D1 USB0_DM, D2 VREGIN, D3 PTA0/TPM0_CH5/SWD_CLK, D4 PTA1/LPUART0_RX/TPM2_CH0, D5 PTA3/I2C1_SCL/TPM0_CH0/SWD_DIO, D6 LCD_P14/PTB18/TPM2_CH0, D7 LCD_P13/PTB17/SPI1_MISO/LPUART0_TX/TPM_CLKIN1/SPI1_MOSI, D8 LCD_P20/ADC0_SE14/PTC0/EXTRG_IN/USB_SOF_OUT/CMP0_OUT, E1 USB0_DP, E2 VOUT33, E3 VSS136, E4 VDD137, E5 PTA2/LPUART0_TX/TPM2_CH1, E6 LCD_P12/PTB16/SPI1_MOSI/LPUART0_RX/TPM_CLKIN0/SPI1_MISO, E7 LCD_P2/ADC0_SE12/PTB2/I2C0_SCL/TPM2_CH0, E8 LCD_P3/ADC0_SE13/PTB3/I2C0_SDA/TPM2_CH1, F3 VSSA, F4 VDDA, F5 PTA5/USB_CLKIN/TPM0_CH2, F6 LCD_P1/ADC0_SE9/PTB1/I2C0_SDA/TPM1_CH1, F7 LCD_P0/ADC0_SE8/PTB0/LLWU_P5/I2C0_SCL/TPM1_CH0, F8 ~{PTA20}/~{RESET_b}, G3 VREFL, G4 VREFH, G5 ~{PTA4}/I2C1_SDA/TPM0_CH1/~{NMI_b}, G6 PTA13/TPM1_CH1, G7 VDD94, G8 XTAL0/PTA19/LPUART1_TX/TPM_CLKIN1/LPTMR0_ALT1, H6 PTA12/TPM1_CH0, H7 VSS95, H8 EXTAL0/PTA18/LPUART1_RX/TPM_CLKIN0
part B pins: A1 LCD_P48/PTE0/CLKOUT32K/SPI1_MISO/LPUART1_TX/RTC_CLKOUT/CMP0_OUT/I2C1_SDA, A2 LCD_P47/PTD7/SPI1_MISO/LPUART0_TX/SPI1_MOSI/FXIO0_D7, A3 LCD_P44/PTD4/LLWU_P14/SPI1_SS/UART2_RX/TPM0_CH4/FXIO0_D4, A4 LCD_P41/ADC0_SE5b/PTD1/SPI0_SCK/TPM0_CH1/FXIO0_D1, B1 LCD_P49/PTE1/SPI1_MOSI/LPUART1_RX/SPI1_MISO/I2C1_SCL, B2 LCD_P46/ADC0_SE7b/PTD6/LLWU_P15/SPI1_MOSI/LPUART0_RX/SPI1_MISO/FXIO0_D6, B3 LCD_P43/PTD3/SPI0_MISO/UART2_TX/TPM0_CH3/SPI0_MOSI/FXIO0_D3, C1 LCD_P45/ADC0_SE6b/PTD5/SPI1_SCK/UART2_TX/TPM0_CH5/FXIO0_D5, C2 LCD_P42/PTD2/SPI0_MOSI/UART2_RX/TPM0_CH2/SPI0_MISO/FXIO0_D2, C3 LCD_P40/PTD0/SPI0_SS/TPM0_CH0/FXIO0_D0, C5 VLL3, F1 LCD_P60/ADC0_DM0/ADC0_SE4a/PTE21/TPM1_CH1/LPUART0_RX/FXIO0_D5, F2 ADC0_DM3/ADC0_SE7a/PTE23/TPM2_CH1/UART2_RX/FXIO0_D7, G1 LCD_P59/ADC0_DP0/ADC0_SE0/PTE20/TPM1_CH0/LPUART0_TX/FXIO0_D4, G2 ADC0_DP3/ADC0_SE3/PTE22/TPM2_CH0/UART2_TX/FXIO0_D6, H1 CMP0_IN5/ADC0_SE4b/PTE29/TPM0_CH2/TPM_CLKIN0, H2 DAC0_OUT/ADC0_SE23/CMP0_IN4/PTE30/TPM0_CH3/TPM_CLKIN1/LPUART1_TX/LPTMR0_ALT1, H3 PTE31/TPM0_CH4, H4 PTE24/TPM0_CH0/I2C0_SCL, H5 PTE25/TPM0_CH1/I2C0_SDA

## 0026 NXP K32L2B21VFM0A
designator IC?  (value not drawn)
pins: 1 PTE0/CLKOUT32K/SPI1_MISO/LPUART1_TX/RTC_CLKOUT/CMP0_OUT/I2C1_SDA, 2 VSS18, 3 USB0_DP, 4 USB0_DM, 5 VOUT33, 6 VREGIN, 7 VDDA, 8 VSSA, 9 DAC0_OUT/ADC0_SE23/CMP0_IN4/PTE30/TPM0_CH3/TPM_CLKIN1/LPUART1_TX/LPTMR0_ALT1, 10 PTA0/TPM0_CH5/SWD_CLK, 11 PTA1/LPUART0_RX/TPM2_CH0, 12 PTA2/LPUART0_TX/TPM2_CH1, 13 PTA3/I2C1_SCL/TPM0_CH0/SWD_DIO, 14 ~{PTA4}/I2C1_SDA/TPM0_CH1/~{NMI_b}, 15 VDD94, 16 VSS95, 17 EXTAL0/PTA18/LPUART1_RX/TPM_CLKIN0, 18 XTAL0/PTA19/LPUART1_TX/TPM_CLKIN1/LPTMR0_ALT1, 19 ~{PTA20}/~{RESET_b}, 20 ADC0_SE8/PTB0/LLWU_P5/I2C0_SCL/TPM1_CH0, 21 ADC0_SE9/PTB1/I2C0_SDA/TPM1_CH1, 22 ADC0_SE15/PTC1/LLWU_P6/RTC_CLKIN/I2C1_SCL/TPM0_CH0, 23 ADC0_SE11/PTC2/I2C1_SDA/TPM0_CH1, 24 PTC3/LLWU_P7/SPI1_SCK/LPUART1_RX/TPM0_CH2/CLKOUT, 25 PTC4/LLWU_P8/SPI0_SS/LPUART1_TX/TPM0_CH3, 26 PTC5/LLWU_P9/SPI0_SCK/LPTMR0_ALT2/CMP0_OUT, 27 CMP0_IN0/PTC6/LLWU_P10/SPI0_MOSI/EXTRG_IN/SPI0_MISO, 28 CMP0_IN1/PTC7/SPI0_MISO/USB_SOF_OUT/SPI0_MOSI, 29 PTD4/LLWU_P14/SPI1_SS/UART2_RX/TPM0_CH4/FXIO0_D4, 30 ADC0_SE6b/PTD5/SPI1_SCK/UART2_TX/TPM0_CH5/FXIO0_D5, 31 ADC0_SE7b/PTD6/LLWU_P15/SPI1_MOSI/LPUART0_RX/SPI1_MISO/FXIO0_D6, 32 PTD7/SPI1_MISO/LPUART0_TX/SPI1_MOSI/FXIO0_D7

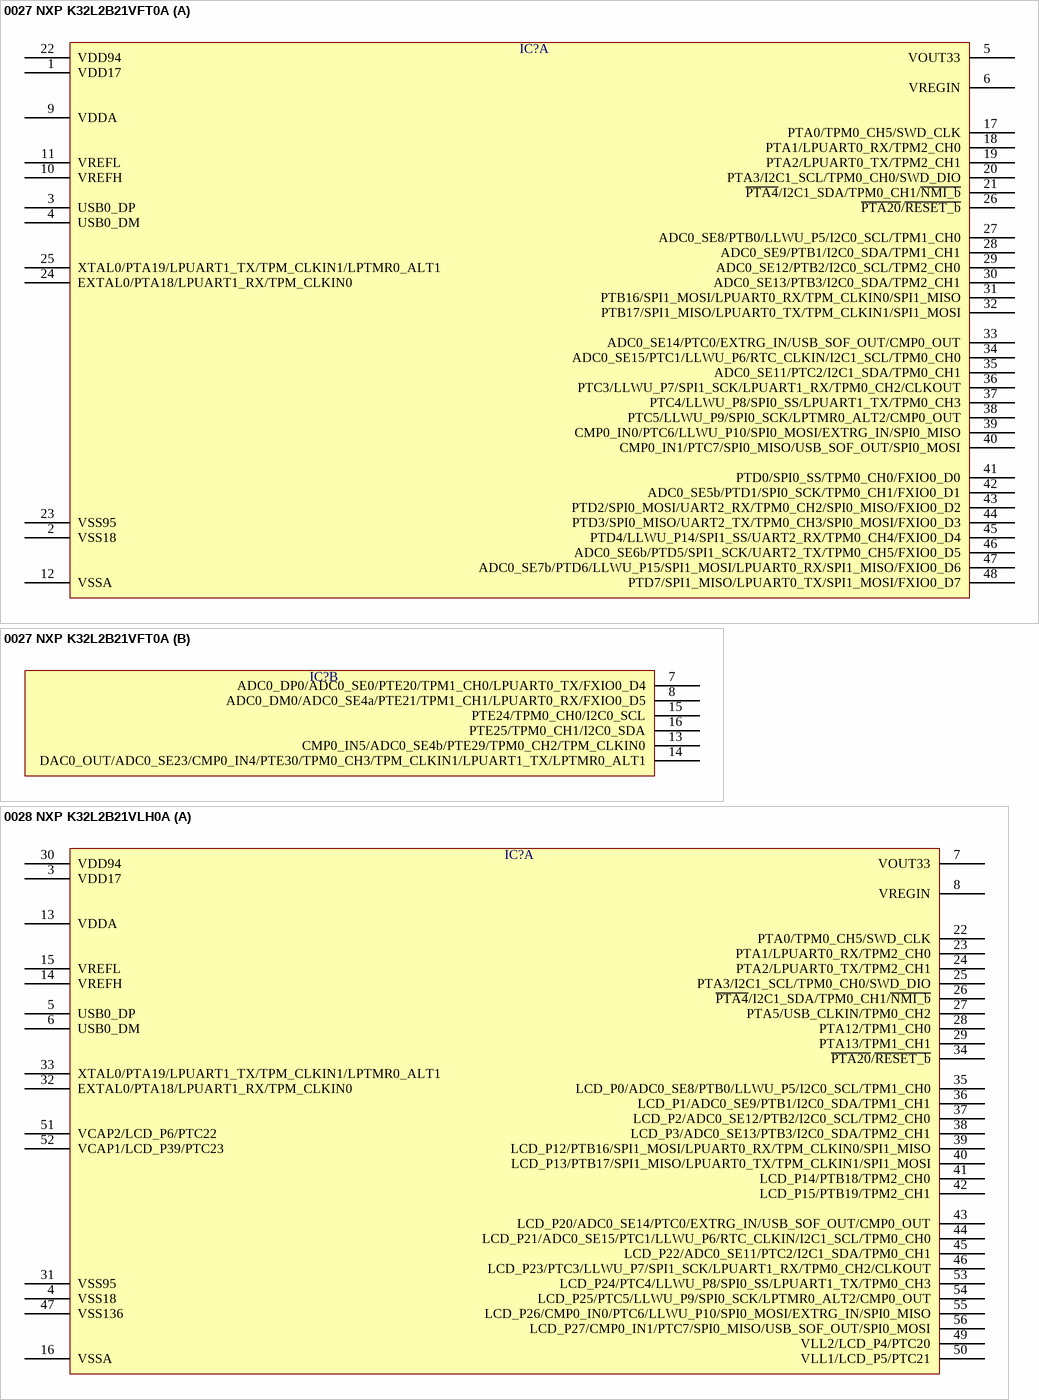
[diagram p9: symbols 0027 NXP K32L2B21VFT0A to 0028 NXP K32L2B21VLH0A]

## 0027 NXP K32L2B21VFT0A
designator IC?  (value not drawn)
part A pins: 1 VDD17, 2 VSS18, 3 USB0_DP, 4 USB0_DM, 5 VOUT33, 6 VREGIN, 9 VDDA, 10 VREFH, 11 VREFL, 12 VSSA, 17 PTA0/TPM0_CH5/SWD_CLK, 18 PTA1/LPUART0_RX/TPM2_CH0, 19 PTA2/LPUART0_TX/TPM2_CH1, 20 PTA3/I2C1_SCL/TPM0_CH0/SWD_DIO, 21 ~{PTA4}/I2C1_SDA/TPM0_CH1/~{NMI_b}, 22 VDD94, 23 VSS95, 24 EXTAL0/PTA18/LPUART1_RX/TPM_CLKIN0, 25 XTAL0/PTA19/LPUART1_TX/TPM_CLKIN1/LPTMR0_ALT1, 26 ~{PTA20}/~{RESET_b}, 27 ADC0_SE8/PTB0/LLWU_P5/I2C0_SCL/TPM1_CH0, 28 ADC0_SE9/PTB1/I2C0_SDA/TPM1_CH1, 29 ADC0_SE12/PTB2/I2C0_SCL/TPM2_CH0, 30 ADC0_SE13/PTB3/I2C0_SDA/TPM2_CH1, 31 PTB16/SPI1_MOSI/LPUART0_RX/TPM_CLKIN0/SPI1_MISO, 32 PTB17/SPI1_MISO/LPUART0_TX/TPM_CLKIN1/SPI1_MOSI, 33 ADC0_SE14/PTC0/EXTRG_IN/USB_SOF_OUT/CMP0_OUT, 34 ADC0_SE15/PTC1/LLWU_P6/RTC_CLKIN/I2C1_SCL/TPM0_CH0, 35 ADC0_SE11/PTC2/I2C1_SDA/TPM0_CH1, 36 PTC3/LLWU_P7/SPI1_SCK/LPUART1_RX/TPM0_CH2/CLKOUT, 37 PTC4/LLWU_P8/SPI0_SS/LPUART1_TX/TPM0_CH3, 38 PTC5/LLWU_P9/SPI0_SCK/LPTMR0_ALT2/CMP0_OUT, 39 CMP0_IN0/PTC6/LLWU_P10/SPI0_MOSI/EXTRG_IN/SPI0_MISO, 40 CMP0_IN1/PTC7/SPI0_MISO/USB_SOF_OUT/SPI0_MOSI, 41 PTD0/SPI0_SS/TPM0_CH0/FXIO0_D0, 42 ADC0_SE5b/PTD1/SPI0_SCK/TPM0_CH1/FXIO0_D1, 43 PTD2/SPI0_MOSI/UART2_RX/TPM0_CH2/SPI0_MISO/FXIO0_D2, 44 PTD3/SPI0_MISO/UART2_TX/TPM0_CH3/SPI0_MOSI/FXIO0_D3, 45 PTD4/LLWU_P14/SPI1_SS/UART2_RX/TPM0_CH4/FXIO0_D4, 46 ADC0_SE6b/PTD5/SPI1_SCK/UART2_TX/TPM0_CH5/FXIO0_D5, 47 ADC0_SE7b/PTD6/LLWU_P15/SPI1_MOSI/LPUART0_RX/SPI1_MISO/FXIO0_D6, 48 PTD7/SPI1_MISO/LPUART0_TX/SPI1_MOSI/FXIO0_D7
part B pins: 7 ADC0_DP0/ADC0_SE0/PTE20/TPM1_CH0/LPUART0_TX/FXIO0_D4, 8 ADC0_DM0/ADC0_SE4a/PTE21/TPM1_CH1/LPUART0_RX/FXIO0_D5, 13 CMP0_IN5/ADC0_SE4b/PTE29/TPM0_CH2/TPM_CLKIN0, 14 DAC0_OUT/ADC0_SE23/CMP0_IN4/PTE30/TPM0_CH3/TPM_CLKIN1/LPUART1_TX/LPTMR0_ALT1, 15 PTE24/TPM0_CH0/I2C0_SCL, 16 PTE25/TPM0_CH1/I2C0_SDA

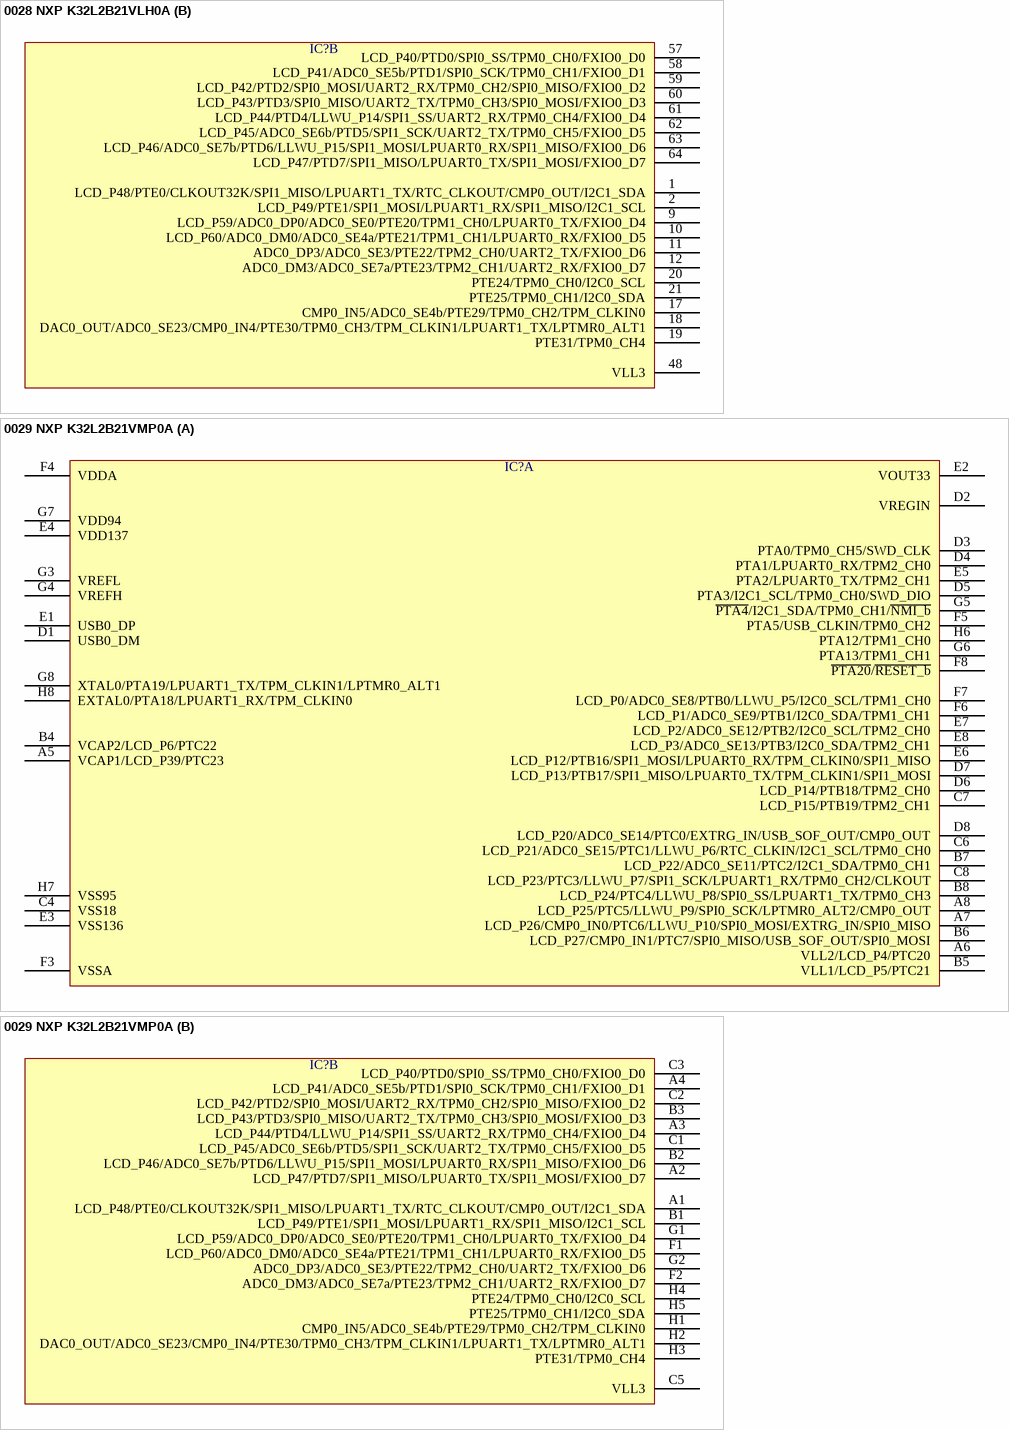
[diagram p10: symbols 0028 NXP K32L2B21VLH0A to 0029 NXP K32L2B21VMP0A]

## 0028 NXP K32L2B21VLH0A
designator IC?  (value not drawn)
part A pins: 3 VDD17, 4 VSS18, 5 USB0_DP, 6 USB0_DM, 7 VOUT33, 8 VREGIN, 13 VDDA, 14 VREFH, 15 VREFL, 16 VSSA, 22 PTA0/TPM0_CH5/SWD_CLK, 23 PTA1/LPUART0_RX/TPM2_CH0, 24 PTA2/LPUART0_TX/TPM2_CH1, 25 PTA3/I2C1_SCL/TPM0_CH0/SWD_DIO, 26 ~{PTA4}/I2C1_SDA/TPM0_CH1/~{NMI_b}, 27 PTA5/USB_CLKIN/TPM0_CH2, 28 PTA12/TPM1_CH0, 29 PTA13/TPM1_CH1, 30 VDD94, 31 VSS95, 32 EXTAL0/PTA18/LPUART1_RX/TPM_CLKIN0, 33 XTAL0/PTA19/LPUART1_TX/TPM_CLKIN1/LPTMR0_ALT1, 34 ~{PTA20}/~{RESET_b}, 35 LCD_P0/ADC0_SE8/PTB0/LLWU_P5/I2C0_SCL/TPM1_CH0, 36 LCD_P1/ADC0_SE9/PTB1/I2C0_SDA/TPM1_CH1, 37 LCD_P2/ADC0_SE12/PTB2/I2C0_SCL/TPM2_CH0, 38 LCD_P3/ADC0_SE13/PTB3/I2C0_SDA/TPM2_CH1, 39 LCD_P12/PTB16/SPI1_MOSI/LPUART0_RX/TPM_CLKIN0/SPI1_MISO, 40 LCD_P13/PTB17/SPI1_MISO/LPUART0_TX/TPM_CLKIN1/SPI1_MOSI, 41 LCD_P14/PTB18/TPM2_CH0, 42 LCD_P15/PTB19/TPM2_CH1, 43 LCD_P20/ADC0_SE14/PTC0/EXTRG_IN/USB_SOF_OUT/CMP0_OUT, 44 LCD_P21/ADC0_SE15/PTC1/LLWU_P6/RTC_CLKIN/I2C1_SCL/TPM0_CH0, 45 LCD_P22/ADC0_SE11/PTC2/I2C1_SDA/TPM0_CH1, 46 LCD_P23/PTC3/LLWU_P7/SPI1_SCK/LPUART1_RX/TPM0_CH2/CLKOUT, 47 VSS136, 49 VLL2/LCD_P4/PTC20, 50 VLL1/LCD_P5/PTC21, 51 VCAP2/LCD_P6/PTC22, 52 VCAP1/LCD_P39/PTC23, 53 LCD_P24/PTC4/LLWU_P8/SPI0_SS/LPUART1_TX/TPM0_CH3, 54 LCD_P25/PTC5/LLWU_P9/SPI0_SCK/LPTMR0_ALT2/CMP0_OUT, 55 LCD_P26/CMP0_IN0/PTC6/LLWU_P10/SPI0_MOSI/EXTRG_IN/SPI0_MISO, 56 LCD_P27/CMP0_IN1/PTC7/SPI0_MISO/USB_SOF_OUT/SPI0_MOSI
part B pins: 1 LCD_P48/PTE0/CLKOUT32K/SPI1_MISO/LPUART1_TX/RTC_CLKOUT/CMP0_OUT/I2C1_SDA, 2 LCD_P49/PTE1/SPI1_MOSI/LPUART1_RX/SPI1_MISO/I2C1_SCL, 9 LCD_P59/ADC0_DP0/ADC0_SE0/PTE20/TPM1_CH0/LPUART0_TX/FXIO0_D4, 10 LCD_P60/ADC0_DM0/ADC0_SE4a/PTE21/TPM1_CH1/LPUART0_RX/FXIO0_D5, 11 ADC0_DP3/ADC0_SE3/PTE22/TPM2_CH0/UART2_TX/FXIO0_D6, 12 ADC0_DM3/ADC0_SE7a/PTE23/TPM2_CH1/UART2_RX/FXIO0_D7, 17 CMP0_IN5/ADC0_SE4b/PTE29/TPM0_CH2/TPM_CLKIN0, 18 DAC0_OUT/ADC0_SE23/CMP0_IN4/PTE30/TPM0_CH3/TPM_CLKIN1/LPUART1_TX/LPTMR0_ALT1, 19 PTE31/TPM0_CH4, 20 PTE24/TPM0_CH0/I2C0_SCL, 21 PTE25/TPM0_CH1/I2C0_SDA, 48 VLL3, 57 LCD_P40/PTD0/SPI0_SS/TPM0_CH0/FXIO0_D0, 58 LCD_P41/ADC0_SE5b/PTD1/SPI0_SCK/TPM0_CH1/FXIO0_D1, 59 LCD_P42/PTD2/SPI0_MOSI/UART2_RX/TPM0_CH2/SPI0_MISO/FXIO0_D2, 60 LCD_P43/PTD3/SPI0_MISO/UART2_TX/TPM0_CH3/SPI0_MOSI/FXIO0_D3, 61 LCD_P44/PTD4/LLWU_P14/SPI1_SS/UART2_RX/TPM0_CH4/FXIO0_D4, 62 LCD_P45/ADC0_SE6b/PTD5/SPI1_SCK/UART2_TX/TPM0_CH5/FXIO0_D5, 63 LCD_P46/ADC0_SE7b/PTD6/LLWU_P15/SPI1_MOSI/LPUART0_RX/SPI1_MISO/FXIO0_D6, 64 LCD_P47/PTD7/SPI1_MISO/LPUART0_TX/SPI1_MOSI/FXIO0_D7

## 0029 NXP K32L2B21VMP0A
designator IC?  (value not drawn)
part A pins: A5 VCAP1/LCD_P39/PTC23, A6 VLL2/LCD_P4/PTC20, A7 LCD_P26/CMP0_IN0/PTC6/LLWU_P10/SPI0_MOSI/EXTRG_IN/SPI0_MISO, A8 LCD_P25/PTC5/LLWU_P9/SPI0_SCK/LPTMR0_ALT2/CMP0_OUT, B4 VCAP2/LCD_P6/PTC22, B5 VLL1/LCD_P5/PTC21, B6 LCD_P27/CMP0_IN1/PTC7/SPI0_MISO/USB_SOF_OUT/SPI0_MOSI, B7 LCD_P22/ADC0_SE11/PTC2/I2C1_SDA/TPM0_CH1, B8 LCD_P24/PTC4/LLWU_P8/SPI0_SS/LPUART1_TX/TPM0_CH3, C4 VSS18, C6 LCD_P21/ADC0_SE15/PTC1/LLWU_P6/RTC_CLKIN/I2C1_SCL/TPM0_CH0, C7 LCD_P15/PTB19/TPM2_CH1, C8 LCD_P23/PTC3/LLWU_P7/SPI1_SCK/LPUART1_RX/TPM0_CH2/CLKOUT, D1 USB0_DM, D2 VREGIN, D3 PTA0/TPM0_CH5/SWD_CLK, D4 PTA1/LPUART0_RX/TPM2_CH0, D5 PTA3/I2C1_SCL/TPM0_CH0/SWD_DIO, D6 LCD_P14/PTB18/TPM2_CH0, D7 LCD_P13/PTB17/SPI1_MISO/LPUART0_TX/TPM_CLKIN1/SPI1_MOSI, D8 LCD_P20/ADC0_SE14/PTC0/EXTRG_IN/USB_SOF_OUT/CMP0_OUT, E1 USB0_DP, E2 VOUT33, E3 VSS136, E4 VDD137, E5 PTA2/LPUART0_TX/TPM2_CH1, E6 LCD_P12/PTB16/SPI1_MOSI/LPUART0_RX/TPM_CLKIN0/SPI1_MISO, E7 LCD_P2/ADC0_SE12/PTB2/I2C0_SCL/TPM2_CH0, E8 LCD_P3/ADC0_SE13/PTB3/I2C0_SDA/TPM2_CH1, F3 VSSA, F4 VDDA, F5 PTA5/USB_CLKIN/TPM0_CH2, F6 LCD_P1/ADC0_SE9/PTB1/I2C0_SDA/TPM1_CH1, F7 LCD_P0/ADC0_SE8/PTB0/LLWU_P5/I2C0_SCL/TPM1_CH0, F8 ~{PTA20}/~{RESET_b}, G3 VREFL, G4 VREFH, G5 ~{PTA4}/I2C1_SDA/TPM0_CH1/~{NMI_b}, G6 PTA13/TPM1_CH1, G7 VDD94, G8 XTAL0/PTA19/LPUART1_TX/TPM_CLKIN1/LPTMR0_ALT1, H6 PTA12/TPM1_CH0, H7 VSS95, H8 EXTAL0/PTA18/LPUART1_RX/TPM_CLKIN0
part B pins: A1 LCD_P48/PTE0/CLKOUT32K/SPI1_MISO/LPUART1_TX/RTC_CLKOUT/CMP0_OUT/I2C1_SDA, A2 LCD_P47/PTD7/SPI1_MISO/LPUART0_TX/SPI1_MOSI/FXIO0_D7, A3 LCD_P44/PTD4/LLWU_P14/SPI1_SS/UART2_RX/TPM0_CH4/FXIO0_D4, A4 LCD_P41/ADC0_SE5b/PTD1/SPI0_SCK/TPM0_CH1/FXIO0_D1, B1 LCD_P49/PTE1/SPI1_MOSI/LPUART1_RX/SPI1_MISO/I2C1_SCL, B2 LCD_P46/ADC0_SE7b/PTD6/LLWU_P15/SPI1_MOSI/LPUART0_RX/SPI1_MISO/FXIO0_D6, B3 LCD_P43/PTD3/SPI0_MISO/UART2_TX/TPM0_CH3/SPI0_MOSI/FXIO0_D3, C1 LCD_P45/ADC0_SE6b/PTD5/SPI1_SCK/UART2_TX/TPM0_CH5/FXIO0_D5, C2 LCD_P42/PTD2/SPI0_MOSI/UART2_RX/TPM0_CH2/SPI0_MISO/FXIO0_D2, C3 LCD_P40/PTD0/SPI0_SS/TPM0_CH0/FXIO0_D0, C5 VLL3, F1 LCD_P60/ADC0_DM0/ADC0_SE4a/PTE21/TPM1_CH1/LPUART0_RX/FXIO0_D5, F2 ADC0_DM3/ADC0_SE7a/PTE23/TPM2_CH1/UART2_RX/FXIO0_D7, G1 LCD_P59/ADC0_DP0/ADC0_SE0/PTE20/TPM1_CH0/LPUART0_TX/FXIO0_D4, G2 ADC0_DP3/ADC0_SE3/PTE22/TPM2_CH0/UART2_TX/FXIO0_D6, H1 CMP0_IN5/ADC0_SE4b/PTE29/TPM0_CH2/TPM_CLKIN0, H2 DAC0_OUT/ADC0_SE23/CMP0_IN4/PTE30/TPM0_CH3/TPM_CLKIN1/LPUART1_TX/LPTMR0_ALT1, H3 PTE31/TPM0_CH4, H4 PTE24/TPM0_CH0/I2C0_SCL, H5 PTE25/TPM0_CH1/I2C0_SDA

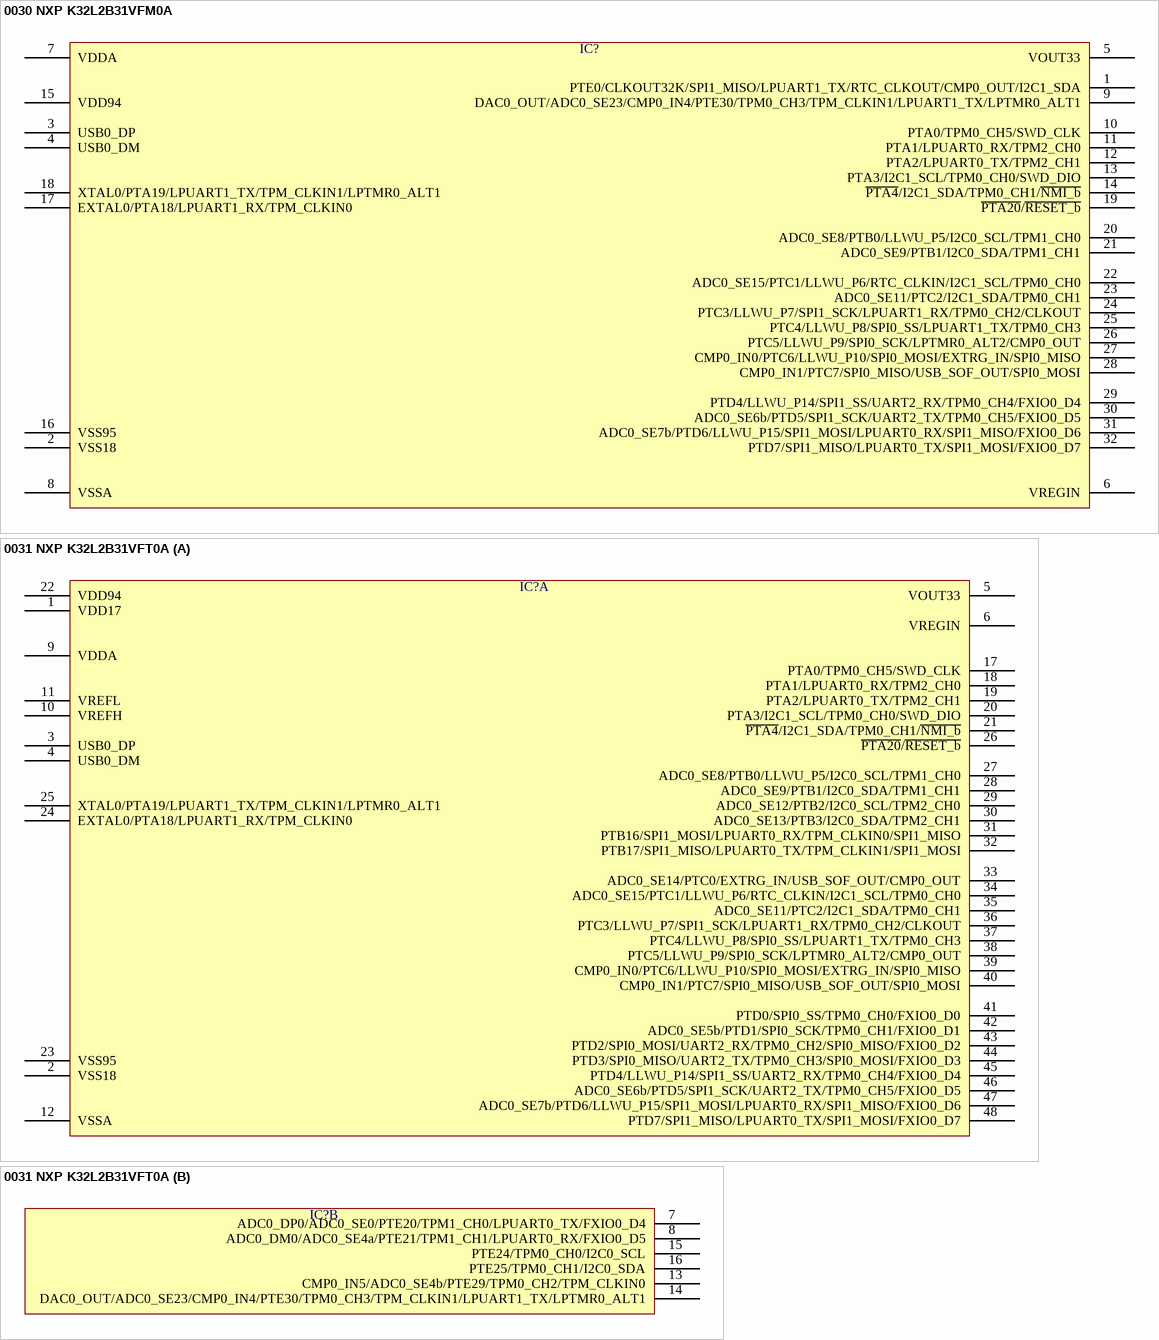
[diagram p11: symbols 0030 NXP K32L2B31VFM0A to 0031 NXP K32L2B31VFT0A]

## 0030 NXP K32L2B31VFM0A
designator IC?  (value not drawn)
pins: 1 PTE0/CLKOUT32K/SPI1_MISO/LPUART1_TX/RTC_CLKOUT/CMP0_OUT/I2C1_SDA, 2 VSS18, 3 USB0_DP, 4 USB0_DM, 5 VOUT33, 6 VREGIN, 7 VDDA, 8 VSSA, 9 DAC0_OUT/ADC0_SE23/CMP0_IN4/PTE30/TPM0_CH3/TPM_CLKIN1/LPUART1_TX/LPTMR0_ALT1, 10 PTA0/TPM0_CH5/SWD_CLK, 11 PTA1/LPUART0_RX/TPM2_CH0, 12 PTA2/LPUART0_TX/TPM2_CH1, 13 PTA3/I2C1_SCL/TPM0_CH0/SWD_DIO, 14 ~{PTA4}/I2C1_SDA/TPM0_CH1/~{NMI_b}, 15 VDD94, 16 VSS95, 17 EXTAL0/PTA18/LPUART1_RX/TPM_CLKIN0, 18 XTAL0/PTA19/LPUART1_TX/TPM_CLKIN1/LPTMR0_ALT1, 19 ~{PTA20}/~{RESET_b}, 20 ADC0_SE8/PTB0/LLWU_P5/I2C0_SCL/TPM1_CH0, 21 ADC0_SE9/PTB1/I2C0_SDA/TPM1_CH1, 22 ADC0_SE15/PTC1/LLWU_P6/RTC_CLKIN/I2C1_SCL/TPM0_CH0, 23 ADC0_SE11/PTC2/I2C1_SDA/TPM0_CH1, 24 PTC3/LLWU_P7/SPI1_SCK/LPUART1_RX/TPM0_CH2/CLKOUT, 25 PTC4/LLWU_P8/SPI0_SS/LPUART1_TX/TPM0_CH3, 26 PTC5/LLWU_P9/SPI0_SCK/LPTMR0_ALT2/CMP0_OUT, 27 CMP0_IN0/PTC6/LLWU_P10/SPI0_MOSI/EXTRG_IN/SPI0_MISO, 28 CMP0_IN1/PTC7/SPI0_MISO/USB_SOF_OUT/SPI0_MOSI, 29 PTD4/LLWU_P14/SPI1_SS/UART2_RX/TPM0_CH4/FXIO0_D4, 30 ADC0_SE6b/PTD5/SPI1_SCK/UART2_TX/TPM0_CH5/FXIO0_D5, 31 ADC0_SE7b/PTD6/LLWU_P15/SPI1_MOSI/LPUART0_RX/SPI1_MISO/FXIO0_D6, 32 PTD7/SPI1_MISO/LPUART0_TX/SPI1_MOSI/FXIO0_D7

## 0031 NXP K32L2B31VFT0A
designator IC?  (value not drawn)
part A pins: 1 VDD17, 2 VSS18, 3 USB0_DP, 4 USB0_DM, 5 VOUT33, 6 VREGIN, 9 VDDA, 10 VREFH, 11 VREFL, 12 VSSA, 17 PTA0/TPM0_CH5/SWD_CLK, 18 PTA1/LPUART0_RX/TPM2_CH0, 19 PTA2/LPUART0_TX/TPM2_CH1, 20 PTA3/I2C1_SCL/TPM0_CH0/SWD_DIO, 21 ~{PTA4}/I2C1_SDA/TPM0_CH1/~{NMI_b}, 22 VDD94, 23 VSS95, 24 EXTAL0/PTA18/LPUART1_RX/TPM_CLKIN0, 25 XTAL0/PTA19/LPUART1_TX/TPM_CLKIN1/LPTMR0_ALT1, 26 ~{PTA20}/~{RESET_b}, 27 ADC0_SE8/PTB0/LLWU_P5/I2C0_SCL/TPM1_CH0, 28 ADC0_SE9/PTB1/I2C0_SDA/TPM1_CH1, 29 ADC0_SE12/PTB2/I2C0_SCL/TPM2_CH0, 30 ADC0_SE13/PTB3/I2C0_SDA/TPM2_CH1, 31 PTB16/SPI1_MOSI/LPUART0_RX/TPM_CLKIN0/SPI1_MISO, 32 PTB17/SPI1_MISO/LPUART0_TX/TPM_CLKIN1/SPI1_MOSI, 33 ADC0_SE14/PTC0/EXTRG_IN/USB_SOF_OUT/CMP0_OUT, 34 ADC0_SE15/PTC1/LLWU_P6/RTC_CLKIN/I2C1_SCL/TPM0_CH0, 35 ADC0_SE11/PTC2/I2C1_SDA/TPM0_CH1, 36 PTC3/LLWU_P7/SPI1_SCK/LPUART1_RX/TPM0_CH2/CLKOUT, 37 PTC4/LLWU_P8/SPI0_SS/LPUART1_TX/TPM0_CH3, 38 PTC5/LLWU_P9/SPI0_SCK/LPTMR0_ALT2/CMP0_OUT, 39 CMP0_IN0/PTC6/LLWU_P10/SPI0_MOSI/EXTRG_IN/SPI0_MISO, 40 CMP0_IN1/PTC7/SPI0_MISO/USB_SOF_OUT/SPI0_MOSI, 41 PTD0/SPI0_SS/TPM0_CH0/FXIO0_D0, 42 ADC0_SE5b/PTD1/SPI0_SCK/TPM0_CH1/FXIO0_D1, 43 PTD2/SPI0_MOSI/UART2_RX/TPM0_CH2/SPI0_MISO/FXIO0_D2, 44 PTD3/SPI0_MISO/UART2_TX/TPM0_CH3/SPI0_MOSI/FXIO0_D3, 45 PTD4/LLWU_P14/SPI1_SS/UART2_RX/TPM0_CH4/FXIO0_D4, 46 ADC0_SE6b/PTD5/SPI1_SCK/UART2_TX/TPM0_CH5/FXIO0_D5, 47 ADC0_SE7b/PTD6/LLWU_P15/SPI1_MOSI/LPUART0_RX/SPI1_MISO/FXIO0_D6, 48 PTD7/SPI1_MISO/LPUART0_TX/SPI1_MOSI/FXIO0_D7
part B pins: 7 ADC0_DP0/ADC0_SE0/PTE20/TPM1_CH0/LPUART0_TX/FXIO0_D4, 8 ADC0_DM0/ADC0_SE4a/PTE21/TPM1_CH1/LPUART0_RX/FXIO0_D5, 13 CMP0_IN5/ADC0_SE4b/PTE29/TPM0_CH2/TPM_CLKIN0, 14 DAC0_OUT/ADC0_SE23/CMP0_IN4/PTE30/TPM0_CH3/TPM_CLKIN1/LPUART1_TX/LPTMR0_ALT1, 15 PTE24/TPM0_CH0/I2C0_SCL, 16 PTE25/TPM0_CH1/I2C0_SDA

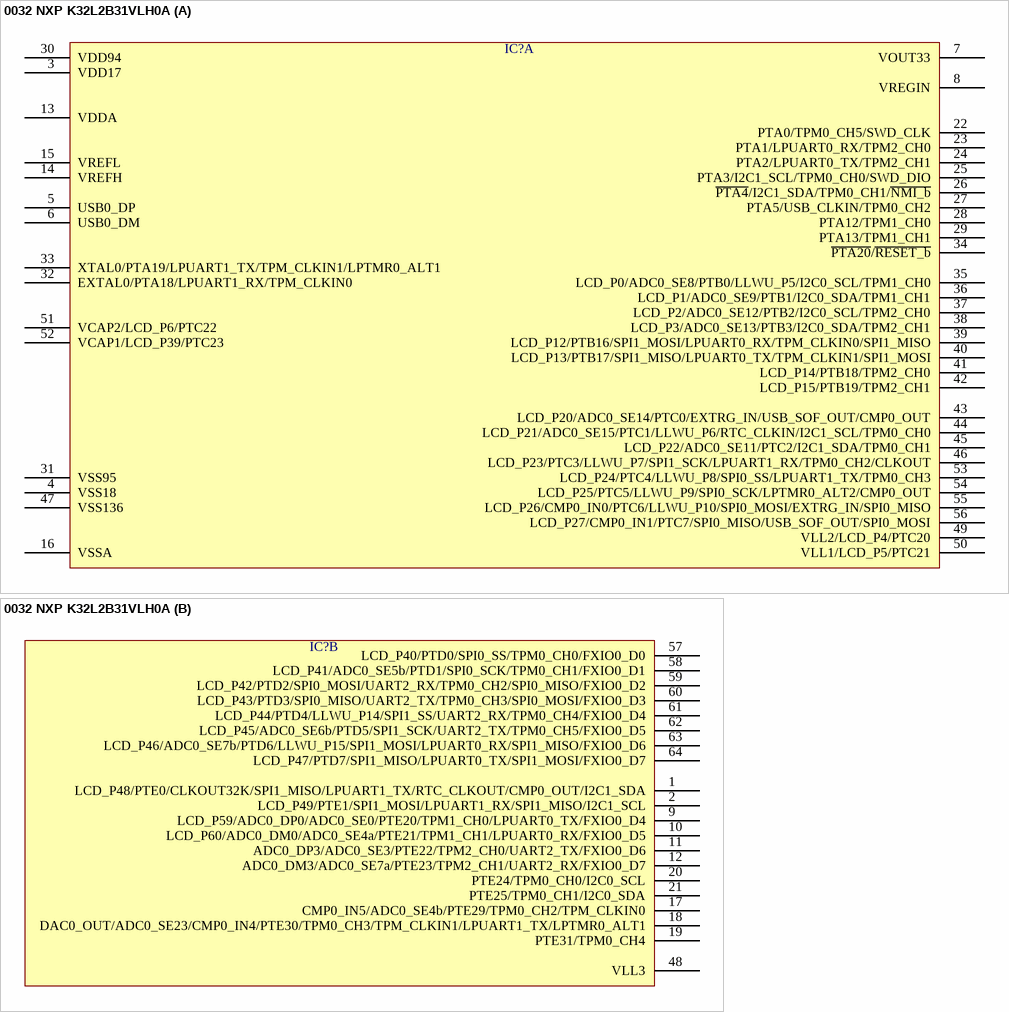
[diagram p12: symbol 0032 NXP K32L2B31VLH0A]

## 0032 NXP K32L2B31VLH0A
designator IC?  (value not drawn)
part A pins: 3 VDD17, 4 VSS18, 5 USB0_DP, 6 USB0_DM, 7 VOUT33, 8 VREGIN, 13 VDDA, 14 VREFH, 15 VREFL, 16 VSSA, 22 PTA0/TPM0_CH5/SWD_CLK, 23 PTA1/LPUART0_RX/TPM2_CH0, 24 PTA2/LPUART0_TX/TPM2_CH1, 25 PTA3/I2C1_SCL/TPM0_CH0/SWD_DIO, 26 ~{PTA4}/I2C1_SDA/TPM0_CH1/~{NMI_b}, 27 PTA5/USB_CLKIN/TPM0_CH2, 28 PTA12/TPM1_CH0, 29 PTA13/TPM1_CH1, 30 VDD94, 31 VSS95, 32 EXTAL0/PTA18/LPUART1_RX/TPM_CLKIN0, 33 XTAL0/PTA19/LPUART1_TX/TPM_CLKIN1/LPTMR0_ALT1, 34 ~{PTA20}/~{RESET_b}, 35 LCD_P0/ADC0_SE8/PTB0/LLWU_P5/I2C0_SCL/TPM1_CH0, 36 LCD_P1/ADC0_SE9/PTB1/I2C0_SDA/TPM1_CH1, 37 LCD_P2/ADC0_SE12/PTB2/I2C0_SCL/TPM2_CH0, 38 LCD_P3/ADC0_SE13/PTB3/I2C0_SDA/TPM2_CH1, 39 LCD_P12/PTB16/SPI1_MOSI/LPUART0_RX/TPM_CLKIN0/SPI1_MISO, 40 LCD_P13/PTB17/SPI1_MISO/LPUART0_TX/TPM_CLKIN1/SPI1_MOSI, 41 LCD_P14/PTB18/TPM2_CH0, 42 LCD_P15/PTB19/TPM2_CH1, 43 LCD_P20/ADC0_SE14/PTC0/EXTRG_IN/USB_SOF_OUT/CMP0_OUT, 44 LCD_P21/ADC0_SE15/PTC1/LLWU_P6/RTC_CLKIN/I2C1_SCL/TPM0_CH0, 45 LCD_P22/ADC0_SE11/PTC2/I2C1_SDA/TPM0_CH1, 46 LCD_P23/PTC3/LLWU_P7/SPI1_SCK/LPUART1_RX/TPM0_CH2/CLKOUT, 47 VSS136, 49 VLL2/LCD_P4/PTC20, 50 VLL1/LCD_P5/PTC21, 51 VCAP2/LCD_P6/PTC22, 52 VCAP1/LCD_P39/PTC23, 53 LCD_P24/PTC4/LLWU_P8/SPI0_SS/LPUART1_TX/TPM0_CH3, 54 LCD_P25/PTC5/LLWU_P9/SPI0_SCK/LPTMR0_ALT2/CMP0_OUT, 55 LCD_P26/CMP0_IN0/PTC6/LLWU_P10/SPI0_MOSI/EXTRG_IN/SPI0_MISO, 56 LCD_P27/CMP0_IN1/PTC7/SPI0_MISO/USB_SOF_OUT/SPI0_MOSI
part B pins: 1 LCD_P48/PTE0/CLKOUT32K/SPI1_MISO/LPUART1_TX/RTC_CLKOUT/CMP0_OUT/I2C1_SDA, 2 LCD_P49/PTE1/SPI1_MOSI/LPUART1_RX/SPI1_MISO/I2C1_SCL, 9 LCD_P59/ADC0_DP0/ADC0_SE0/PTE20/TPM1_CH0/LPUART0_TX/FXIO0_D4, 10 LCD_P60/ADC0_DM0/ADC0_SE4a/PTE21/TPM1_CH1/LPUART0_RX/FXIO0_D5, 11 ADC0_DP3/ADC0_SE3/PTE22/TPM2_CH0/UART2_TX/FXIO0_D6, 12 ADC0_DM3/ADC0_SE7a/PTE23/TPM2_CH1/UART2_RX/FXIO0_D7, 17 CMP0_IN5/ADC0_SE4b/PTE29/TPM0_CH2/TPM_CLKIN0, 18 DAC0_OUT/ADC0_SE23/CMP0_IN4/PTE30/TPM0_CH3/TPM_CLKIN1/LPUART1_TX/LPTMR0_ALT1, 19 PTE31/TPM0_CH4, 20 PTE24/TPM0_CH0/I2C0_SCL, 21 PTE25/TPM0_CH1/I2C0_SDA, 48 VLL3, 57 LCD_P40/PTD0/SPI0_SS/TPM0_CH0/FXIO0_D0, 58 LCD_P41/ADC0_SE5b/PTD1/SPI0_SCK/TPM0_CH1/FXIO0_D1, 59 LCD_P42/PTD2/SPI0_MOSI/UART2_RX/TPM0_CH2/SPI0_MISO/FXIO0_D2, 60 LCD_P43/PTD3/SPI0_MISO/UART2_TX/TPM0_CH3/SPI0_MOSI/FXIO0_D3, 61 LCD_P44/PTD4/LLWU_P14/SPI1_SS/UART2_RX/TPM0_CH4/FXIO0_D4, 62 LCD_P45/ADC0_SE6b/PTD5/SPI1_SCK/UART2_TX/TPM0_CH5/FXIO0_D5, 63 LCD_P46/ADC0_SE7b/PTD6/LLWU_P15/SPI1_MOSI/LPUART0_RX/SPI1_MISO/FXIO0_D6, 64 LCD_P47/PTD7/SPI1_MISO/LPUART0_TX/SPI1_MOSI/FXIO0_D7

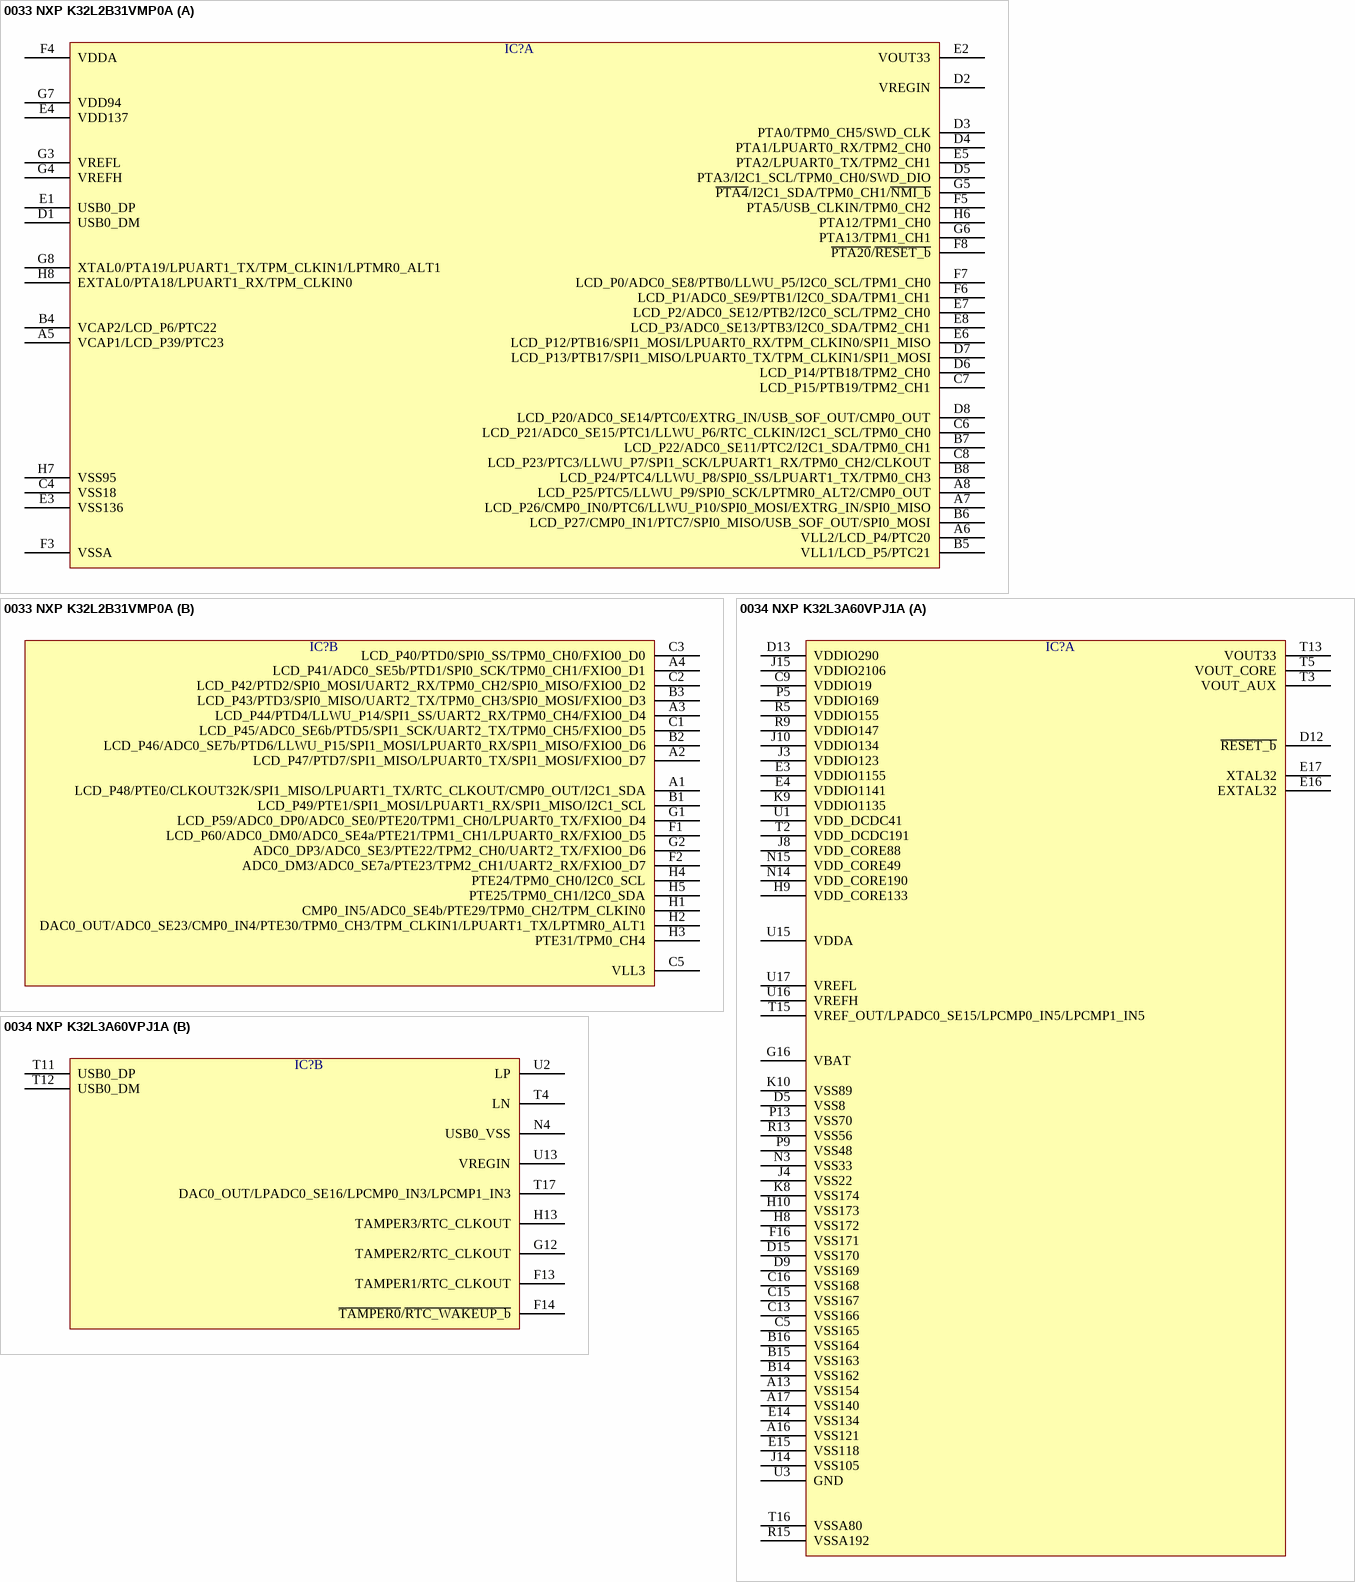
[diagram p13: symbols 0033 NXP K32L2B31VMP0A to 0034 NXP K32L3A60VPJ1A]